# Altium schematic symbol library mcu.SchLib: 53 symbols (part 2 of 3)
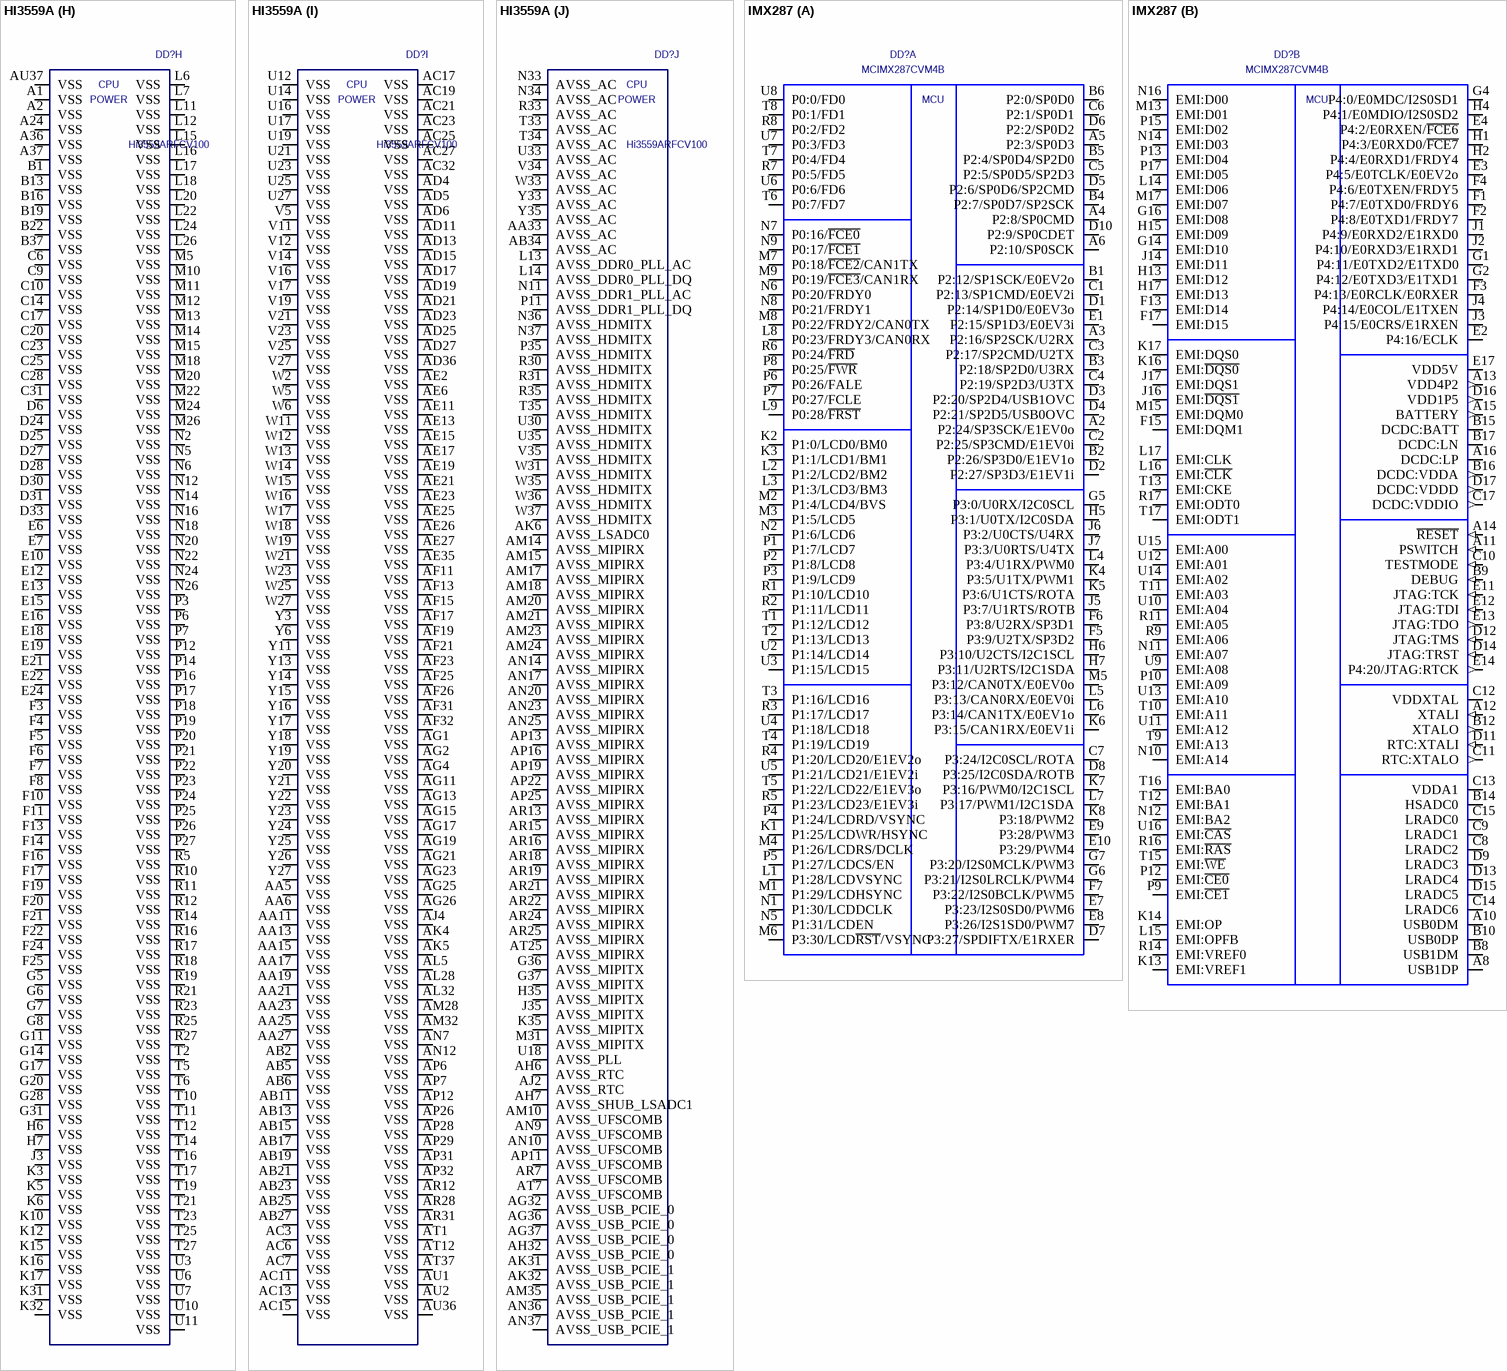
[diagram p8: symbols HI3559A to IMX287]

## HI3559A
designator DD?, comment Hi3559ARFCV100
Video processor; Value: Hi3559ARFCV100
footprint BGA1067_065
part A pins: A3 ODT1 (out) "VDDIO_DDR", A4 BG1 (out) "VDDIO_DDR", A5 A13 (out) "VDDIO_DDR", A6 A1 (out) "VDDIO_DDR", A7 A2 (out) "VDDIO_DDR", A8 A4 (out) "VDDIO_DDR", A9 ACT (out) "VDDIO_DDR", A10 A16 (out) "VDDIO_DDR", A11 CKE0 (out) "VDDIO_DDR", A12 DQ21 (io) "VDDIO_DDR", A13 DM2 (out) "VDDIO_DDR", A14 DQ25 (io) "VDDIO_DDR", A15 DQ31 (io) "VDDIO_DDR", A16 DQ30 (io) "VDDIO_DDR", A17 DQ26 (io) "VDDIO_DDR", A18 DQ1 (io) "VDDIO_DDR", A19 DQ7 (io) "VDDIO_DDR", A20 DM1 (out) "VDDIO_DDR", A21 DQ8 (io) "VDDIO_DDR", A22 DQ2 (io) "VDDIO_DDR", A23 DQ11 (io) "VDDIO_DDR", B3 ZQ "VDDIO_DDR", B4 ~{CS1} (out) "VDDIO_DDR", B5 CKE1 (out) "VDDIO_DDR", B6 A0 (out) "VDDIO_DDR", B7 A5 (out) "VDDIO_DDR", B8 A10 (out) "VDDIO_DDR", B9 A14 (out) "VDDIO_DDR", B10 A3 (out) "VDDIO_DDR", B11 ~{CS0} (out) "VDDIO_DDR", B12 DQ23 (io) "VDDIO_DDR", B14 DQ27 (io) "VDDIO_DDR", B15 DQ29 (io) "VDDIO_DDR", B17 DQ24 (io) "VDDIO_DDR", B18 DQ4 (io) "VDDIO_DDR", B20 DQ14 (io) "VDDIO_DDR", B21 DQ10 (io) "VDDIO_DDR", B23 DQ9 (io) "VDDIO_DDR", C4 A8 (out) "VDDIO_DDR", C5 A7 (out) "VDDIO_DDR", C7 BA0 (out) "VDDIO_DDR", C8 A15 (out) "VDDIO_DDR", C11 ODT0 (out) "VDDIO_DDR", C12 DQ17 (io) "VDDIO_DDR", C13 DQ18 (io) "VDDIO_DDR", C15 DQ28 (io) "VDDIO_DDR", C16 DM3 (out) "VDDIO_DDR", C18 DQ6 (io) "VDDIO_DDR", C19 DQ12 (io) "VDDIO_DDR", C21 DQ5 (io) "VDDIO_DDR", C22 DQ13 (io) "VDDIO_DDR", D4 ~{RST} (out) "VDDIO_DDR", D5 A6 (out) "VDDIO_DDR", D7 A9 (out) "VDDIO_DDR", D8 A12 (out) "VDDIO_DDR", D9 ~{CLK1} (out) "VDDIO_DDR0_CK", D10 BA1 (out) "VDDIO_DDR", D11 CLK0 (out) "VDDIO_DDR0_CK", D12 DQ22 (io) "VDDIO_DDR", D13 DQ19 (io) "VDDIO_DDR", D14 DQS2 (io) "VDDIO_DDR", D15 DQ20 (io) "VDDIO_DDR", D16 DQ16 (io) "VDDIO_DDR", D17 DQS3 (io) "VDDIO_DDR", D18 DM0 (out) "VDDIO_DDR", D19 DQ15 (io) "VDDIO_DDR", D20 ~{DQS0} (io) "VDDIO_DDR", D21 DQ3 (io) "VDDIO_DDR", D22 DQ0 (io) "VDDIO_DDR", D23 DQS1 (io) "VDDIO_DDR", E5 A11 (out) "VDDIO_DDR", E8 BG0 (out) "VDDIO_DDR", E9 CLK1 (out) "VDDIO_DDR0_CK", E11 ~{CLK0} (out) "VDDIO_DDR0_CK", E14 ~{DQS2} (io) "VDDIO_DDR", E17 ~{DQS3} (io) "VDDIO_DDR", E20 DQS0 (io) "VDDIO_DDR", E23 ~{DQS1} (io) "VDDIO_DDR", F9 VDDIO_DDR (power) "1,2V", F12 VDDIO_DDR (power) "1,2V", F15 VDDIO_DDR (power) "1,2V", F18 VDDIO_DDR (power) "1,2V", G9 VDDIO_DDR (power) "1,2V", G10 VDDIO_DDR (power) "1,2V", G12 VDDIO_DDR (power) "1,2V", G13 VDDIO_DDR (power) "1,2V", G15 VDDIO_DDR (power) "1,2V", G16 VDDIO_DDR (power) "1,2V", G18 VDDIO_DDR (power) "1,2V", G19 VDDIO_DDR (power) "1,2V", K11 VDDIO_CK (power) "1,2V", K13 AVDD18_PLL_AC (power) "1,8V", K14 AVDD18_PLL_DQ (power) "1,8V"
part B pins: AA1 DQ25 (io) "VDDIO_DDR", AA2 DQ31 (io) "VDDIO_DDR", AA3 DQ20 (io) "VDDIO_DDR", AA4 DQ16 (io) "VDDIO_DDR", AB1 DQ19 (io) "VDDIO_DDR", AB3 DQ28 (io) "VDDIO_DDR", AB4 DQ22 (io) "VDDIO_DDR", AC1 DQ26 (io) "VDDIO_DDR", AC2 DQ24 (io) "VDDIO_DDR", AC4 DQS2 (io) "VDDIO_DDR", AC5 ~{DQS2} (io) "VDDIO_DDR", B2 ZQ "VDDIO_DDR", C1 ODT1 (out) "VDDIO_DDR", C2 A8 (out) "VDDIO_DDR", C3 ~{RST} (out) "VDDIO_DDR", D1 BG1 (out) "VDDIO_DDR", D2 ~{CS1} (out) "VDDIO_DDR", D3 A7 (out) "VDDIO_DDR", E1 A13 (out) "VDDIO_DDR", E2 CKE1 (out) "VDDIO_DDR", E3 A11 (out) "VDDIO_DDR", E4 A6 (out) "VDDIO_DDR", F1 A1 (out) "VDDIO_DDR", F2 A0 (out) "VDDIO_DDR", G1 A2 (out) "VDDIO_DDR", G2 A5 (out) "VDDIO_DDR", G3 BA0 (out) "VDDIO_DDR", G4 A9 (out) "VDDIO_DDR", H1 A4 (out) "VDDIO_DDR", H2 A10 (out) "VDDIO_DDR", H3 A15 (out) "VDDIO_DDR", H4 A12 (out) "VDDIO_DDR", H5 BA1 (out) "VDDIO_DDR", J1 ACT (out) "VDDIO_DDR", J2 A14 (out) "VDDIO_DDR", J4 ~{CLK1} (out) "VDDIO_DDR1_CK", J5 CLK1 (out) "VDDIO_DDR1_CK", J6 VDDIO_DDR (power) "1,2V", J7 VDDIO_DDR (power) "1,2V", K1 A16 (out) "VDDIO_DDR", K2 A3 (out) "VDDIO_DDR", K4 BG0 (out) "VDDIO_DDR", K7 VDDIO_DDR (power) "1,2V", L1 CKE0 (out) "VDDIO_DDR", L2 ODT0 (out) "VDDIO_DDR", L3 ~{CS0} (out) "VDDIO_DDR", L4 CLK0 (out) "VDDIO_DDR1_CK", L5 ~{CLK0} (out) "VDDIO_DDR1_CK", L10 VDDIO_CK (power) "1,2V", M1 DQ4 (io) "VDDIO_DDR", M2 DQ6 (io) "VDDIO_DDR", M3 DQ0 (io) "VDDIO_DDR", M4 DQ7 (io) "VDDIO_DDR", M6 VDDIO_DDR (power) "1,2V", M7 VDDIO_DDR (power) "1,2V", N1 DM1 (out) "VDDIO_DDR", N3 DQ3 (io) "VDDIO_DDR", N4 DQ2 (io) "VDDIO_DDR", N7 VDDIO_DDR (power) "1,2V", N10 AVDD18_PLL_AC (power) "1,8V", P1 DQ12 (io) "VDDIO_DDR", P2 DQ14 (io) "VDDIO_DDR", P4 DQS1 (io) "VDDIO_DDR", P5 ~{DQS1} (io) "VDDIO_DDR", P10 AVDD18_PLL_DQ (power) "1,8V", R1 DQ8 (io) "VDDIO_DDR", R2 DQ10 (io) "VDDIO_DDR", R3 DQ15 (io) "VDDIO_DDR", R4 DQ5 (io) "VDDIO_DDR", R6 VDDIO_DDR (power) "1,2V", R7 VDDIO_DDR (power) "1,2V", T1 DQ11 (io) "VDDIO_DDR", T3 DQ1 (io) "VDDIO_DDR", T4 DM0 (out) "VDDIO_DDR", T7 VDDIO_DDR (power) "1,2V", U1 DQ13 (io) "VDDIO_DDR", U2 DQ9 (io) "VDDIO_DDR", U4 DQS0 (io) "VDDIO_DDR", U5 ~{DQS0} (io) "VDDIO_DDR", V1 DM3 (out) "VDDIO_DDR", V2 DQ21 (io) "VDDIO_DDR", V3 DQ23 (io) "VDDIO_DDR", V4 DQ18 (io) "VDDIO_DDR", V6 VDDIO_DDR (power) "1,2V", V7 VDDIO_DDR (power) "1,2V", W1 DQ17 (io) "VDDIO_DDR", W3 DQ27 (io) "VDDIO_DDR", W4 DQ30 (io) "VDDIO_DDR", W7 VDDIO_DDR (power) "1,2V", Y1 DM2 (out) "VDDIO_DDR", Y2 DQ29 (io) "VDDIO_DDR", Y4 DQS3 (io) "VDDIO_DDR", Y5 ~{DQS3} (io) "VDDIO_DDR"
part C pins: AL17 AVDD08_MIPIRX (power) "0,8V", AL18 AVDD08_MIPIRX (power) "0,8V", AL23 AVDD18_MIPIRX (power) "1,8V", AL24 AVDD18_MIPIRX (power) "1,8V", AM13 MIPI_RX3_D1N (in) "AVDD18_MIPIRX", AM16 MIPI_RX2_CK1N (in) "AVDD18_MIPIRX", AM19 MIPI_RX1_CK1N (in) "AVDD18_MIPIRX", AM22 MIPI_RX0_CK1N (in) "AVDD18_MIPIRX", AN13 MIPI_RX3_D1P (in) "AVDD18_MIPIRX", AN15 MIPI_RX3_D3P (in) "AVDD18_MIPIRX", AN16 MIPI_RX2_CK1P (in) "AVDD18_MIPIRX", AN18 MIPI_RX2_D0P (in) "AVDD18_MIPIRX", AN19 MIPI_RX1_CK1P (in) "AVDD18_MIPIRX", AN21 MIPI_RX1_D0P (in) "AVDD18_MIPIRX", AN22 MIPI_RX0_CK1P (in) "AVDD18_MIPIRX", AN24 MIPI_RX0_D3N (in) "AVDD18_MIPIRX", AP14 MIPI_RX3_CK1N (in) "AVDD18_MIPIRX", AP15 MIPI_RX3_D3N (in) "AVDD18_MIPIRX", AP17 MIPI_RX2_D2P (in) "AVDD18_MIPIRX", AP18 MIPI_RX2_D0N (in) "AVDD18_MIPIRX", AP20 MIPI_RX1_D2P (in) "AVDD18_MIPIRX", AP21 MIPI_RX1_D0N (in) "AVDD18_MIPIRX", AP23 MIPI_RX0_D2N (in) "AVDD18_MIPIRX", AP24 MIPI_RX0_D3P (in) "AVDD18_MIPIRX", AR14 MIPI_RX3_CK1P (in) "AVDD18_MIPIRX", AR17 MIPI_RX2_D2N (in) "AVDD18_MIPIRX", AR20 MIPI_RX1_D2N (in) "AVDD18_MIPIRX", AR23 MIPI_RX0_D2P (in) "AVDD18_MIPIRX", AT13 MIPI_RX3_D0N (in) "AVDD18_MIPIRX", AT14 MIPI_RX3_CK0N (in) "AVDD18_MIPIRX", AT15 MIPI_RX3_D2N (in) "AVDD18_MIPIRX", AT16 MIPI_RX2_CK0N (in) "AVDD18_MIPIRX", AT17 MIPI_RX2_D1N (in) "AVDD18_MIPIRX", AT18 MIPI_RX2_D3N (in) "AVDD18_MIPIRX", AT19 MIPI_RX1_CK0N (in) "AVDD18_MIPIRX", AT20 MIPI_RX1_D1N (in) "AVDD18_MIPIRX", AT21 MIPI_RX1_D3N (in) "AVDD18_MIPIRX", AT22 MIPI_RX0_CK0P (in) "AVDD18_MIPIRX", AT23 MIPI_RX0_D0P (in) "AVDD18_MIPIRX", AT24 MIPI_RX0_D1P (in) "AVDD18_MIPIRX", AU13 MIPI_RX3_D0P (in) "AVDD18_MIPIRX", AU14 MIPI_RX3_CK0P (in) "AVDD18_MIPIRX", AU15 MIPI_RX3_D2P (in) "AVDD18_MIPIRX", AU16 MIPI_RX2_CK0P (in) "AVDD18_MIPIRX", AU17 MIPI_RX2_D1P (in) "AVDD18_MIPIRX", AU18 MIPI_RX2_D3P (in) "AVDD18_MIPIRX", AU19 MIPI_RX1_CK0P (in) "AVDD18_MIPIRX", AU20 MIPI_RX1_D1P (in) "AVDD18_MIPIRX", AU21 MIPI_RX1_D3P (in) "AVDD18_MIPIRX", AU22 MIPI_RX0_CK0N (in) "AVDD18_MIPIRX", AU23 MIPI_RX0_D0N (in) "AVDD18_MIPIRX", AU24 MIPI_RX0_D1N (in) "AVDD18_MIPIRX", H36 DSI_D3N (out) "AVDD18_MIPITX", H37 DSI_D3P (out) "AVDD18_MIPITX", J36 DSI_D2N (out) "AVDD18_MIPITX", J37 DSI_D2P (out) "AVDD18_MIPITX", K36 DSI_CKN (out) "AVDD18_MIPITX", K37 DSI_CKP (out) "AVDD18_MIPITX", L34 HDMI_CEC (io) "DVDD18", L36 DSI_D1N (out) "AVDD18_MIPITX", L37 DSI_D1P (out) "AVDD18_MIPITX", M32 AVDD18_MIPITX (power) "1,8V", M34 HDMI_SCL (io) "DVDD18", M35 HDMI_SDA (io) "DVDD18", M36 DSI_D0N (out) "AVDD18_MIPITX", M37 DSI_D0P (out) "AVDD18_MIPITX", N35 HDMI_HOTPLUG (io) "DVDD18", P30 AVDD08_HDMITX (power) "0,8V", P31 AVDDPLL_HDMITX (power) "1,8V", P36 HDMI_TX2P (out) "AVDD18_HDMITX", P37 HDMI_TX2N (out) "AVDD18_HDMITX", R36 HDMI_TX1P (out) "AVDD18_HDMITX", R37 HDMI_TX1N (out) "AVDD18_HDMITX", T32 HDMI_REXT "AVDD18_HDMITX", T36 HDMI_TX0P (out) "AVDD18_HDMITX", T37 HDMI_TX0N (out) "AVDD18_HDMITX", U36 HDMI_TXCP (out) "AVDD18_HDMITX", U37 HDMI_TXCN (out) "AVDD18_HDMITX", V30 AVDRV_HDMITX "10k to +3,3V", V36 HDMI_EARCP (in) "AVDD18_HDMITX", V37 HDMI_EARCN (in) "AVDD18_HDMITX", W32 AVDD18_HDMITX (power) "1,8V"
part D pins: AA32 AVDD18_AC (power) "1,8V", AA34 AC_OUTL (out) "AVDD18_AC", AB7 DVDD18_OSC (power) "1,8V", AB33 AC_VREF "AVDD18_AC", AD1 SHUB_GPIO3_0/PWM_OUT0/SPI2_SCLK (io) "DVDD18_SENHUB", AD2 SHUB_GPIO3_1/PWM_OUT1/SPI2_SDO (io) "DVDD18_SENHUB", AD3 SHUB_GPIO3_5/PWM_OUT5/SPI0_CSN2/I2C6_SDA (io) "DVDD18_SENHUB", AE1 SHUB_GPIO3_2/PWM_OUT2/SPI2_SDI (io) "DVDD18_SENHUB", AE3 SHUB_GPIO3_6/PWM_OUT6/SPI1_CSN1/I2C7_SCL (io) "DVDD18_SENHUB", AE4 SHUB_GPIO3_4/PWM_OUT4/SPI0_CSN1/I2C6_SCL (io) "DVDD18_SENHUB", AE5 SHUB_GPIO3_3/PWM_OUT3/SPI2_CSN (io) "DVDD18_SENHUB", AE7 DVDD_SENHUB_LDO_DECAP "-", AE31 AVDDH33_USB0 (power) "3,3V", AE32 AVDD33_USB0 (power) "3,3V", AE36 USB_DM0 (io) "AVDD33_USB0", AE37 USB_DP0 (io) "AVDD33_USB0", AF1 XIN (in) "DVDD18_OSC", AF2 XOUT (out) "DVDD18_OSC", AF3 SHUB_GPIO3_7/PWM_OUT7/SPI1_CSN2/I2C7_SDA (io) "DVDD18_SENHUB", AF4 SHUB_GPIO2_5/UART2_RXD (io) "DVDD18_SENHUB", AF5 VDD_TEST_RTC (power) "-", AF6 DVDD18_SENHUB (power) "1,8V", AF27 DVDD_USB0 (power) "0,8V", AF37 USB_VBUS0 (in) "AVDD33_USB0", AG3 SHUB_GPIO2_7/UART2_TXD (io) "DVDD18_SENHUB", AG5 SHUB_GPIO2_6/UART2_CTSN/UART6_TXD/CAN_TX (io) "DVDD18_SENHUB", AG6 AVDD18_RTC_PMC (power) "1,8V", AG27 DVDD_USB1 (power) "0,8V", AG31 AVDD18_USB_PCIE_0 (power) "1,8V", AG35 USB_REXT0 "AVDD33_USB0", AH1 RTC_XOUT (out) "AVDD18_RTC_PMC", AH2 RTC_XIN (in) "AVDD18_RTC_PMC", AH3 SHUB_GPIO2_4/UART2_RTSN/UART6_RXD/CAN_RX (io) "DVDD18_SENHUB", AH4 SHUB_GPIO0_1/SPI0_SDO/I2C2_SDA (io) "DVDD18_SENHUB", AH5 SHUB_GPIO0_2/SPI0_SDI/I2C3_SCL (io) "DVDD18_SENHUB", AH31 AVDD18_USB_PCIE_1 (power) "1,8V", AH34 USB_ID0 (in) "AVDD33_USB0", AH35 ~{PCIE_CLK_REQ} (in) "DVDD18", AH36 ~{PCIE_REFCLK} (io) "AVDD18_USB_PCIE_0", AH37 PCIE_REFCLK (io) "AVDD18_USB_PCIE_0", AJ1 SHUB_GPIO1_0/I2C0_SDA/UART3_RXD (io) "DVDD18_SENHUB", AJ3 SHUB_GPIO1_1/I2C0_SCL/UART3_TXD (io) "DVDD18_SENHUB", AJ5 AVDD_BAT_RTC (power) "1,6..3,3V", AJ6 AVDD18_ULPFLL (power) "1,8V", AJ7 AVDD18_SHUB_LSADC1 (power) "1,8V", AJ31 AVDD08_USB_PCIE_1 (power) "1,8V", AJ32 AVDD08_USB_PCIE_0 (power) "1,8V", AJ36 USB3/PCIE_TXM0 (out) "AVDD18_USB_PCIE_0", AJ37 USB3/PCIE_TXP0 (out) "AVDD18_USB_PCIE_0", AK1 SHUB_GPIO0_4/SPI1_SCLK/I2C4_SCL (io) "DVDD18_SENHUB", AK2 SHUB_GPIO0_5/SPI1_SDO/I2C4_SDA (io) "DVDD18_SENHUB", AK3 SHUB_GPIO0_3/SPI0_CSN0/I2C3_SDA (io) "DVDD18_SENHUB", AK36 USB3/PCIE_RXM0 (in) "AVDD18_USB_PCIE_0", AK37 USB3/PCIE_RXP0 (in) "AVDD18_USB_PCIE_0", AL1 SHUB_GPIO0_6/SPI1_SDI/I2C5_SCL (io) "DVDD18_SENHUB", AL2 SHUB_GPIO0_7/SPI1_CSN0/I2C5_SDA (io) "DVDD18_SENHUB", AL3 SHUB_GPIO1_3/I2C1_SCL (io) "DVDD18_SENHUB", AL4 SHUB_GPIO0_0/SPI0_SCLK/I2C2_SCL (io) "DVDD18_SENHUB", AL31 AVDDH33_USB1 (power) "3,3V", AL36 USB3/PCIE_RXP1 (in) "AVDD18_USB_PCIE_1", AL37 USB3/PCIE_RXM1 (in) "AVDD18_USB_PCIE_1", AM1 SHUB_GPIO1_6/UART0_CTSN/UART4_TXD/I2C6_SDA (io) "DVDD18_SENHUB", AM2 SHUB_GPIO1_5/UART0_RXD (io) "DVDD18_SENHUB", AM3 SHUB_GPIO1_2/I2C1_SDA (io) "DVDD18_SENHUB", AM4 SHUB_GPIO2_0/UART1_RTSN/UART5_RXD/I2C7_SCL (io) "DVDD18_SENHUB", AM5 SHUB_GPIO2_2/UART1_CTSN/UART5_TXD/I2C7_SDA (io) "DVDD18_SENHUB", AM31 AVDD33_USB1 (power) "3,3V", AM36 USB3/PCIE_TXP1 (out) "AVDD18_USB_PCIE_1", AM37 USB3/PCIE_TXM1 (out) "AVDD18_USB_PCIE_1", AN1 SHUB_GPIO1_7/UART0_TXD (io) "DVDD18_SENHUB", AN2 SHUB_GPIO1_4/UART0_RTSN/UART4_RXD/I2C6_SCL (io) "DVDD18_SENHUB", AN3 SHUB_GPIO2_3/UART1_TXD (io) "DVDD18_SENHUB", AN4 SHUB_GPIO2_1/UART1_RXD (io) "DVDD18_SENHUB", AN11 RST_N (in) "DVDD18", AP1 PWR_WAKEUP2 (in) "AVDD18_RTC_PMC", AP2 PWR_SEQ0 (out) "AVDD18_RTC_PMC", AP3 PWR_EN2 (out) "AVDD18_RTC_PMC", AP4 PWR_EN1 (out) "AVDD18_RTC_PMC", AP5 SHUB_GPIO4_0/LSADC1_CH0 (io) "DVDD18_SENHUB", AP10 TEST_MODE (in) "DVDD18", AP36 USB_DP1 (io) "AVDD33_USB1", AP37 USB_DM1 (io) "AVDD33_USB1", AR1 PWR_STARTUP (in) "AVDD18_RTC_PMC", AR2 PWR_WAKEUP0 (in) "AVDD18_RTC_PMC", AR3 PWR_RSTN (in) "AVDD18_RTC_PMC", AR4 PWR_EN0 (out) "AVDD18_RTC_PMC", AR5 SHUB_GPIO4_1/LSADC1_CH1 (io) "DVDD18_SENHUB", AR11 SYS_RSTN_OUT (out) "DVDD18", AR35 USB_ID1 (in) "AVDD33_USB1", AR37 USB_VBUS1 (in) "AVDD33_USB1", AT2 PWR_WAKEUP1 (in) "AVDD18_RTC_PMC", AT3 PWR_SEQ1 (out) "AVDD18_RTC_PMC", AT4 PWR_SEQ2 (out) "AVDD18_RTC_PMC", AT36 USB_REXT1 "AVDD33_USB1", AU3 PWR_BUTTON0 (in) "AVDD18_RTC_PMC", AU12 POR_SEL (in) "DVDD18", P33 AC_MICBIAS0 (out) "AVDD18_AC", P34 AC_MICBIAS1 (out) "AVDD18_AC", R34 AC_IN1R (in) "AVDD18_AC", T18 AVDD08_PLL (power) "0,8V", U34 AC_IN1L (in) "AVDD18_AC", V18 AVDD18_PLL (power) "1,8V", V33 AC_IN0R (in) "AVDD18_AC", W34 AC_IN0L (in) "AVDD18_AC", Y34 AC_OUTR (out) "AVDD18_AC"
part E pins: A25 GPIO8_5/RGMII0_RXCK/LCD_DATA16 (io) "DVDD18", A26 GPIO8_7/RGMII0_TXD3/LCD_DATA18 (io) "DVDD18", A27 GPIO9_0/RGMII0_TXD2/LCD_DATA20 (io) "DVDD18", A28 GPIO9_2/RGMII0_TXD0/LCD_DATA22 (io) "DVDD18", A33 GPIO0_1/LCD_VSYNC (io) "DVDD18", A34 GPIO6_1/LCD_DATA3/RGMII1_TXD0 (io) "DVDD18", A35 GPIO7_7/LCD_DATA5/RGMII1_TXCK (io) "DVDD18", AC31 DVDD18 (power) "1,8V", AC35 GPIO0_0/UPDATE_MODE_N (io) "DVDD18", AF36 GPIO0_6/USB3_PWREN0 (io) "DVDD18", AG33 GPIO0_4/UART4_RXD/UART3_RTSN (io) "DVDD18", AG34 GPIO0_5/UART4_TXD/UART3_CTSN (io) "DVDD18", AL27 DVDD18 (power) "1,8V", AL33 GPIO4_6/SPI3_SDI (io) "DVDD18", AL34 GPIO5_7/SPI3_CSN1/I2C7_SDA (io) "DVDD18", AL35 GPIO4_7/SPI3_CSN0/I2C7_SCL (io) "DVDD18", AM27 DVDD18 (power) "1,8V", AN8 DVDD18 (power) "1,8V", AN26 GPIO3_1/SPI0_SDO/I2C0_SDA (io) "DVDD18", AN28 GPIO3_2/SPI0_SDI (io) "DVDD18", AN31 GPIO3_4/SPI1_SCLK/I2C1_SCL (io) "DVDD18", AN32 GPIO3_7/SPI1_CSN0/I2C5_SCL (io) "DVDD18", AN34 GPIO4_4/SPI3_SCLK/I2C3_SCL (io) "DVDD18", AN35 GPIO4_5/SPI3_SDO/I2C3_SDA (io) "DVDD18", AP27 GPIO5_4/SPI0_CSN1/I2C4_SDA (io) "DVDD18", AP30 GPIO3_5/SPI1_SDO/I2C1_SDA (io) "DVDD18", AP33 GPIO4_0/SPI2_SCLK/I2C2_SCL (io) "DVDD18", AP34 GPIO5_6/SPI2_CSN1/I2C6_SDA (io) "DVDD18", AP35 GPIO4_3/SPI2_CSN0/I2C6_SCL (io) "DVDD18", AR26 GPIO5_0/SENSOR_RSTN0 (io) "DVDD18", AR27 GPIO3_3/SPI0_CSN0/I2C4_SCL (io) "DVDD18", AR30 GPIO3_6/SPI1_SDI (io) "DVDD18", AR32 GPIO5_5/SPI1_CSN1/I2C5_SDA (io) "DVDD18", AR33 GPIO4_1/SPI2_SDO/I2C2_SDA (io) "DVDD18", AR34 GPIO4_2/SPI2_SDI (io) "DVDD18", AR36 GPIO0_7/USB3_PWREN1 (io) "DVDD18", AT26 GPIO3_0/SPI0_SCLK/I2C0_SCL (io) "DVDD18", AT27 GPIO1_1/SENSOR_CLK0_B (io) "DVDD18", AT28 GPIO2_2/SENSOR_HS1/SFC_EMMC_BOOT_MODE/FLASH_TRIG2 (io) "DVDD18", AT29 GPIO1_3/SENSOR_CLK1_B (io) "DVDD18", AT30 GPIO2_5/SENSOR_VS2/PCIE_REFCLK_SEL/SHUTTER_TRIG4 (io) "DVDD18", AT31 GPIO1_4/SENSOR_CLK2_A (io) "DVDD18", AT32 GPIO5_2/SENSOR_RSTN2 (io) "DVDD18", AT33 GPIO2_6/SENSOR_HS3/PCIE_DEEMPH_SEL/FLASH_TRIG6 (io) "DVDD18", AT34 GPIO1_7/SENSOR_CLK3_B/TEST_CLK (io) "DVDD18", AU25 GPIO2_1/SENSOR_VS0/SFC_DEVICE_MODE (io) "DVDD18", AU26 GPIO2_0/SENSOR_HS0 (io) "DVDD18", AU27 GPIO1_0/SENSOR_CLK0_A (io) "DVDD18", AU28 GPIO2_3/SENSOR_VS1/PCIE_USB3_MODE0/SHUTTER_TRIG2 (io) "DVDD18", AU29 GPIO1_2/SENSOR_CLK1_A (io) "DVDD18", AU30 GPIO5_1/SENSOR_RSTN1 (io) "DVDD18", AU31 GPIO2_4/SENSOR_HS2/PCIE_USB3_MODE1/FLASH_TRIG4 (io) "DVDD18", AU32 GPIO1_5/SENSOR_CLK2_B (io) "DVDD18", AU33 GPIO2_7/SENSOR_VS3/BOOT_SEL4/SHUTTER_TRIG6 (io) "DVDD18", AU34 GPIO1_6/SENSOR_CLK3_A (io) "DVDD18", AU35 GPIO5_3/SENSOR_RSTN3 (io) "DVDD18", B24 GPIO8_0/RGMII0_RXDV/LCD_DATA15 (io) "DVDD18", B25 GPIO9_6/MDCK0/LCD_DATA17 (io) "DVDD18", B26 GPIO9_4/EPHY0_CLK/LCD_DATA19 (io) "DVDD18", B27 GPIO9_1/RGMII0_TXD1/LCD_DATA21 (io) "DVDD18", B28 GPIO9_3/RGMII0_TXCK/LCD_DATA23 (io) "DVDD18", B33 GPIO6_2/LCD_DATA2/RGMII1_TXD1 (io) "DVDD18", B34 GPIO6_0/LCD_DATA4/RGMII1_TXEN (io) "DVDD18", B35 GPIO7_6/LCD_DATA6 (io) "DVDD18", B36 GPIO7_4/LCD_DATA8/RGMII1_RXD2/SDIO2_CCMD (io) "DVDD18", C24 GPIO8_6/RGMII0_TXEN (io) "DVDD18", C26 GPIO9_7/MDIO0 (io) "DVDD18", C27 GPIO8_4/RGMII0_RXD0/LCD_DATA14 (io) "DVDD18", C34 GPIO6_7/LCD_DE/EPHY1_RSTN (io) "DVDD18", C35 GPIO7_5/SDIO2_CDATA3/RGMII1_RXD3 (io) "DVDD18", C36 GPIO7_3/LCD_DATA9/RGMII1_RXD1/SDIO2_POWER_EN (io) "DVDD18", C37 GPIO7_2/LCD_DATA10/RGMII1_RXD0/SDIO2_CCLK (io) "DVDD18", D26 GPIO8_1/RGMII0_RXD3 (io) "DVDD18", D34 GPIO6_6/SDIO2_CDATA2/MDCK1 (io) "DVDD18", D35 GPIO6_5/LCD_HSYNC/MDIO1 (io) "DVDD18", D36 GPIO7_1/LCD_DATA11/RGMII1_RXDV/SDIO2_CDATA0 (io) "DVDD18", E25 GPIO9_5/EPHY0_RSTN (io) "DVDD18", E26 GPIO8_2/RGMII0_RXD2/LCD_DATA12 (io) "DVDD18", E27 GPIO8_3/RGMII0_RXD1/LCD_DATA13 (io) "DVDD18", E34 GPIO6_3/LCD_DATA1/RGMII1_TXD2 (io) "DVDD18", E35 GPIO6_4/LCD_DATA0/RGMII1_TXD3 (io) "DVDD18", E36 GPIO7_0/LCD_DATA7/EPHY1_CLK (io) "DVDD18", E37 GPIO0_2 (io) "DVDD18", F29 DVDD18_LDO_DECAP_3 "-", F31 DVDD18_LDO_DECAP_2 "-", F34 GPIO0_3/LCD_CLK (io) "DVDD18", G24 DVDD18 (power) "1,8V", G25 DVDD18 (power) "1,8V", G29 DVDD18_LDO_DECAP_1 "-", J31 DVDD18 (power) "1,8V", J32 DVDD18 (power) "1,8V"
part F pins: A29 GPIO11_6/SDIO0_CDATA2/JTAG_TDI (io) "DVDD33/DVDD18", A30 GPIO11_3/SDIO0_CCMD (io) "DVDD33/DVDD18", A31 GPIO11_2/SDIO0_CCLK/JTAG_TCK (io) "DVDD33/DVDD18", A32 GPIO11_5/SDIO0_CDATA1/JTAG_TDO (io) "DVDD33/DVDD18", AA35 GPIO13_0/UART0_RXD/CAN0_RX (io) "DVDD18", AA36 GPIO14_4/SVB_PWM2 (io) "DVDD18", AA37 GPIO14_5/SVB_PWM3 (io) "DVDD18", AB35 GPIO13_1/UART0_TXD/CAN0_TX (io) "DVDD18", AB36 GPIO17_0/JTAG_TRSTN/I2S_MCLK (io) "DVDD18", AB37 GPIO17_4/JTAG_TDI/I2S_SD_RX (io) "DVDD18", AC36 GPIO17_2/JTAG_TMS/I2S_WS_TX (io) "DVDD18", AC37 GPIO17_1/JTAG_TCK/I2S_BCLK_TX (io) "DVDD18", AD33 GPIO13_2/UART1_RXD/CAN1_RX (io) "DVDD18", AD34 GPIO13_3/UART1_TXD/CAN1_TX (io) "DVDD18", AD35 GPIO17_3/JTAG_TDO/I2S_SD_TX (io) "DVDD18", AD37 JTAG_EN (in) "DVDD18", AE33 GPIO13_7/UART3_TXD (io) "DVDD18", AE34 GPIO13_6/UART3_RXD (io) "DVDD18", AF34 GPIO13_4/UART2_RXD/UART1_RTSN (io) "DVDD18", AF35 GPIO13_5/UART2_TXD/UART1_CTSN (io) "DVDD18", AH33 GPIO14_0/PWM_OUT0/USB3_OVRCUR0 (io) "DVDD18", AK7 AVDD18_LSADC0 (power) "1,8V", AK33 GPIO14_1/PWM_OUT1/USB3_OVRCUR1 (io) "DVDD18", AK34 GPIO17_6/SHUTTER_TRIG0 (io) "DVDD18", AK35 GPIO17_5/FLASH_TRIG0 (io) "DVDD18", AL10 AVDD18_UFSCOMB (power) "1,8V", AL11 AVDD1218_UFSCOMB (power) "1,2/1,8V", AM9 AVDD18_UFSCOMB (power) "1,8V", AM11 AVDD08_UFSCOMB (power) "0,8V", AN5 GPIO14_6/LSADC_CH0 (io) "DVDD18", AN6 GPIO14_7/LSADC_CH1 (io) "DVDD18", AN29 GPIO18_1/SENSOR_VSOUT1/BOOT_SEL2 (io) "DVDD18", AN33 GPIO18_2/SENSOR_VSOUT2/BOOT_SEL1 (io) "DVDD18", AP8 EMMC_CLK (io) "DVDD18", AP9 EMMC_DS (io) "DVDD18", AR6 GPIO15_2/SFC_MOSI_IO0/NF_CSN (io) "DVDD18", AR8 EMMC_CALIO (io) "AVDD1218_UFSCOMB", AR9 EMMC_CMD (io) "DVDD18", AR10 GPIO17_7/EMMC_RST_N (io) "DVDD18", AR29 GPIO18_0/SENSOR_VSOUT0/BOOT_SEL3 (io) "DVDD18", AT5 GPIO15_6/SFC_CS 0N/NF_RDY (io) "DVDD18", AT6 GPIO15_5/SFC_HOLD_IO3/NF_ALE (io) "DVDD18", AT8 GPIO10_2/EMMC_DATA2/NF_DQ1 (io) "DVDD18", AT9 GPIO10_3/EMMC_DATA3/NF_DQ3 (io) "DVDD18", AT10 GPIO10_4/EMMC_DATA4/NF_DQ5 (io) "DVDD18", AT11 GPIO10_6/EMMC_DATA6/NF_DQ7 (io) "DVDD18", AT35 GPIO18_3/SENSOR_VSOUT3/BOOT_SEL0 (io) "DVDD18", AU4 GPIO15_0/SFC_CS 1N/EMMC_POWER_EN (io) "DVDD18", AU5 GPIO15_1/SFC_CLK/NF_REN (io) "DVDD18", AU6 GPIO15_3/SFC_MISO_IO1/NF_CLE (io) "DVDD18", AU7 GPIO15_4/SFC_WP_IO2/NF_WEN (io) "DVDD18", AU8 GPIO10_5/EMMC_DATA5/NF_DQ0 (io) "DVDD18", AU9 GPIO10_0/EMMC_DATA0/NF_DQ2 (io) "DVDD18", AU10 GPIO10_1/EMMC_DATA1/NF_DQ4 (io) "DVDD18", AU11 GPIO10_7/EMMC_DATA7/NF_DQ6 (io) "DVDD18", B29 GPIO11_7/SDIO0_CDATA3/JTAG_TRSTN (io) "DVDD33/DVDD18", B30 GPIO11_0/SDIO0_POWER_EN (io) "DVDD33", B31 GPIO11_4/SDIO0_CDATA0/JTAG_TMS (io) "DVDD33/DVDD18", B32 GPIO11_1/SDIO0_CARD_DETECT (io) "DVDD33", C29 GPIO16_7/IR_IN (io) "DVDD18", C30 GPIO12_0/SDIO1_POWER_EN (io) "DVDD33", C32 GPIO12_2/SDIO1_CCLK (io) "DVDD33", C33 DVDD3318_SDIO_VOUT "-", D29 GPIO12_6/SDIO1_CDATA2 (io) "DVDD33", D32 GPIO12_4/SDIO1_CDATA0 (io) "DVDD33", D37 GPIO15_7/SDIO2_CDATA1/RGMII1_RXCK (io) "DVDD18", E28 GPIO12_7/SDIO1_CDATA3 (io) "DVDD33", E30 GPIO12_3/SDIO1_CCMD (io) "DVDD33", E31 GPIO12_5/SDIO1_CDATA1 (io) "DVDD33", E33 GPIO12_1/SDIO1_CARD_DETECT (io) "DVDD33", F28 DVDD33 (power) "-", F35 GPIO16_4/SPI4_CSN1 (io) "DVDD18", F36 I2C11_SDA (io) "DVDD18", F37 I2C11_SCL (io) "DVDD18", G34 GPIO16_1/SPI4_SDO/I2C8_SDA (io) "DVDD18", G35 GPIO16_0/SPI4_SCLK/I2C8_SCL (io) "DVDD18", H34 GPIO16_2/SPI4_SDI/I2C9_SCL (io) "DVDD18", J34 GPIO16_3/SPI4_CSN0/I2C9_SDA (io) "DVDD18", K34 GPIO16_5/SPI4_CSN2/I2C10_SCL (io) "DVDD18", L35 GPIO16_6/SPI4_CSN3/I2C10_SDA (io) "DVDD18", Y36 GPIO14_2/SVB_PWM0 (io) "DVDD18", Y37 GPIO14_3/SVB_PWM1 (io) "DVDD18"
part G pins: AA12 DVDD_MEDIA (power) "0,9V", AA14 DVDD_MEDIA (power) "0,9V", AA16 DVDD_MEDIA (power) "0,9V", AA18 DVDD_MEDIA (power) "0,9V", AA20 DVDD_MEDIA (power) "0,9V", AA22 DVDD_MEDIA (power) "0,9V", AA24 DVDD_MEDIA (power) "0,9V", AA26 DVDD_MEDIA (power) "0,9V", AB12 DVDD_MEDIA (power) "0,9V", AB14 DVDD_MEDIA (power) "0,9V", AB16 DVDD_MEDIA (power) "0,9V", AB18 DVDD_MEDIA (power) "0,9V", AB20 DVDD_MEDIA (power) "0,9V", AB22 DVDD_MEDIA (power) "0,9V", AB24 DVDD_MEDIA (power) "0,9V", AB26 DVDD_MEDIA (power) "0,9V", AC12 DVDD_MEDIA (power) "0,9V", AC14 DVDD_MEDIA (power) "0,9V", AC16 DVDD_MEDIA (power) "0,9V", AC18 DVDD_MEDIA (power) "0,9V", AC20 DVDD_MEDIA (power) "0,9V", AC22 DVDD_MEDIA (power) "0,9V", AC24 DVDD_MEDIA (power) "0,9V", AC26 DVDD_MEDIA (power) "0,9V", AD12 DVDD_MEDIA (power) "0,9V", AD14 DVDD_MEDIA (power) "0,9V", AD16 DVDD_MEDIA (power) "0,9V", AD18 DVDD_MEDIA (power) "0,9V", AD20 DVDD_MEDIA (power) "0,9V", AD22 DVDD_MEDIA (power) "0,9V", AD24 DVDD_MEDIA (power) "0,9V", AD26 DVDD_MEDIA (power) "0,9V", AE12 DVDD_MEDIA (power) "0,9V", AE14 DVDD_MEDIA (power) "0,9V", AE16 DVDD_MEDIA (power) "0,9V", AE18 DVDD_MEDIA (power) "0,9V", AE20 DVDD_MEDIA (power) "0,9V", AE22 DVDD_MEDIA (power) "0,9V", AE24 DVDD_MEDIA (power) "0,9V", AF12 DVDD_MEDIA (power) "0,9V", AF14 DVDD_MEDIA (power) "0,9V", AF16 DVDD_MEDIA (power) "0,9V", AF18 DVDD_MEDIA (power) "0,9V", AF20 DVDD_MEDIA (power) "0,9V", AF22 DVDD_MEDIA (power) "0,9V", AF24 DVDD_MEDIA (power) "0,9V", AG12 DVDD_MEDIA (power) "0,9V", AG14 DVDD_MEDIA (power) "0,9V", AG16 DVDD_MEDIA (power) "0,9V", AG18 DVDD_MEDIA (power) "0,9V", AG20 DVDD_MEDIA (power) "0,9V", AG22 DVDD_MEDIA (power) "0,9V", AG24 DVDD_MEDIA (power) "0,9V", L19 DVDD_CPU (power) "0,9V", L21 DVDD_CPU (power) "0,9V", L23 DVDD_CPU (power) "0,9V", L25 DVDD_CPU (power) "0,9V", L27 DVDD_CPU (power) "0,9V", M16 DVDD (power) "0,9V", M17 DVDD (power) "0,9V", M19 DVDD_CPU (power) "0,9V", M21 DVDD_CPU (power) "0,9V", M23 DVDD_CPU (power) "0,9V", M25 DVDD_CPU (power) "0,9V", M27 DVDD_CPU (power) "0,9V", N13 DVDD (power) "0,9V", N15 DVDD (power) "0,9V", N17 DVDD (power) "0,9V", N19 DVDD_CPU (power) "0,9V", N21 DVDD_CPU (power) "0,9V", N23 DVDD_CPU (power) "0,9V", N25 DVDD_CPU (power) "0,9V", N27 DVDD_CPU (power) "0,9V", P13 DVDD (power) "0,9V", P15 DVDD (power) "0,9V", R13 DVDD (power) "0,9V", R15 DVDD (power) "0,9V", R20 DVDD_GPU (power) "0,9V", R22 DVDD_GPU (power) "0,9V", R24 DVDD_GPU (power) "0,9V", R26 DVDD_GPU (power) "0,9V", T13 DVDD (power) "0,9V", T15 DVDD (power) "0,9V", T20 DVDD_GPU (power) "0,9V", T22 DVDD_GPU (power) "0,9V", T24 DVDD_GPU (power) "0,9V", T26 DVDD_GPU (power) "0,9V", U13 DVDD (power) "0,9V", U15 DVDD (power) "0,9V", U20 DVDD_GPU (power) "0,9V", U22 DVDD_GPU (power) "0,9V", U24 DVDD_GPU (power) "0,9V", U26 DVDD_GPU (power) "0,9V", V13 DVDD (power) "0,9V", V15 DVDD (power) "0,9V", V20 DVDD_GPU (power) "0,9V", V22 DVDD_GPU (power) "0,9V", V24 DVDD_GPU (power) "0,9V", V26 DVDD_GPU (power) "0,9V", W20 DVDD_GPU (power) "0,9V", W22 DVDD_GPU (power) "0,9V", W24 DVDD_GPU (power) "0,9V", W26 DVDD_GPU (power) "0,9V", Y12 DVDD_MEDIA (power) "0,9V"
part H pins: A1 VSS (power) "-", A2 VSS (power) "-", A24 VSS (power) "-", A36 VSS (power) "-", A37 VSS (power) "-", AU37 VSS (power) "-", B1 VSS (power) "-", B13 VSS (power) "-", B16 VSS (power) "-", B19 VSS (power) "-", B22 VSS (power) "-", B37 VSS (power) "-", C6 VSS (power) "-", C9 VSS (power) "-", C10 VSS (power) "-", C14 VSS (power) "-", C17 VSS (power) "-", C20 VSS (power) "-", C23 VSS (power) "-", C25 VSS (power) "-", C28 VSS (power) "-", C31 VSS (power) "-", D6 VSS (power) "-", D24 VSS (power) "-", D25 VSS (power) "-", D27 VSS (power) "-", D28 VSS (power) "-", D30 VSS (power) "-", D31 VSS (power) "-", D33 VSS (power) "-", E6 VSS (power) "-", E7 VSS (power) "-", E10 VSS (power) "-", E12 VSS (power) "-", E13 VSS (power) "-", E15 VSS (power) "-", E16 VSS (power) "-", E18 VSS (power) "-", E19 VSS (power) "-", E21 VSS (power) "-", E22 VSS (power) "-", E24 VSS (power) "-", F3 VSS (power) "-", F4 VSS (power) "-", F5 VSS (power) "-", F6 VSS (power) "-", F7 VSS (power) "-", F8 VSS (power) "-", F10 VSS (power) "-", F11 VSS (power) "-", F13 VSS (power) "-", F14 VSS (power) "-", F16 VSS (power) "-", F17 VSS (power) "-", F19 VSS (power) "-", F20 VSS (power) "-", F21 VSS (power) "-", F22 VSS (power) "-", F24 VSS (power) "-", F25 VSS (power) "-", G5 VSS (power) "-", G6 VSS (power) "-", G7 VSS (power) "-", G8 VSS (power) "-", G11 VSS (power) "-", G14 VSS (power) "-", G17 VSS (power) "-", G20 VSS (power) "-", G28 VSS (power) "-", G31 VSS (power) "-", H6 VSS (power) "-", H7 VSS (power) "-", J3 VSS (power) "-", K3 VSS (power) "-", K5 VSS (power) "-", K6 VSS (power) "-", K10 VSS (power) "-", K12 VSS (power) "-", K15 VSS (power) "-", K16 VSS (power) "-", K17 VSS (power) "-", K31 VSS (power) "-", K32 VSS (power) "-", L6 VSS (power) "-", L7 VSS (power) "-", L11 VSS (power) "-", L12 VSS (power) "-", L15 VSS (power) "-", L16 VSS (power) "-", L17 VSS (power) "-", L18 VSS (power) "-", L20 VSS (power) "-", L22 VSS (power) "-", L24 VSS (power) "-", L26 VSS (power) "-", M5 VSS (power) "-", M10 VSS (power) "-", M11 VSS (power) "-", M12 VSS (power) "-", M13 VSS (power) "-", M14 VSS (power) "-", M15 VSS (power) "-", M18 VSS (power) "-", M20 VSS (power) "-", M22 VSS (power) "-", M24 VSS (power) "-", M26 VSS (power) "-", N2 VSS (power) "-", N5 VSS (power) "-", N6 VSS (power) "-", N12 VSS (power) "-", N14 VSS (power) "-", N16 VSS (power) "-", N18 VSS (power) "-", N20 VSS (power) "-", N22 VSS (power) "-", N24 VSS (power) "-", N26 VSS (power) "-", P3 VSS (power) "-", P6 VSS (power) "-", P7 VSS (power) "-", P12 VSS (power) "-", P14 VSS (power) "-", P16 VSS (power) "-", P17 VSS (power) "-", P18 VSS (power) "-", P19 VSS (power) "-", P20 VSS (power) "-", P21 VSS (power) "-", P22 VSS (power) "-", P23 VSS (power) "-", P24 VSS (power) "-", P25 VSS (power) "-", P26 VSS (power) "-", P27 VSS (power) "-", R5 VSS (power) "-", R10 VSS (power) "-", R11 VSS (power) "-", R12 VSS (power) "-", R14 VSS (power) "-", R16 VSS (power) "-", R17 VSS (power) "-", R18 VSS (power) "-", R19 VSS (power) "-", R21 VSS (power) "-", R23 VSS (power) "-", R25 VSS (power) "-", R27 VSS (power) "-", T2 VSS (power) "-", T5 VSS (power) "-", T6 VSS (power) "-", T10 VSS (power) "-", T11 VSS (power) "-", T12 VSS (power) "-", T14 VSS (power) "-", T16 VSS (power) "-", T17 VSS (power) "-", T19 VSS (power) "-", T21 VSS (power) "-", T23 VSS (power) "-", T25 VSS (power) "-", T27 VSS (power) "-", U3 VSS (power) "-", U6 VSS (power) "-", U7 VSS (power) "-", U10 VSS (power) "-", U11 VSS (power) "-"
part I pins: AA5 VSS (power) "-", AA6 VSS (power) "-", AA11 VSS (power) "-", AA13 VSS (power) "-", AA15 VSS (power) "-", AA17 VSS (power) "-", AA19 VSS (power) "-", AA21 VSS (power) "-", AA23 VSS (power) "-", AA25 VSS (power) "-", AA27 VSS (power) "-", AB2 VSS (power) "-", AB5 VSS (power) "-", AB6 VSS (power) "-", AB11 VSS (power) "-", AB13 VSS (power) "-", AB15 VSS (power) "-", AB17 VSS (power) "-", AB19 VSS (power) "-", AB21 VSS (power) "-", AB23 VSS (power) "-", AB25 VSS (power) "-", AB27 VSS (power) "-", AC3 VSS (power) "-", AC6 VSS (power) "-", AC7 VSS (power) "-", AC11 VSS (power) "-", AC13 VSS (power) "-", AC15 VSS (power) "-", AC17 VSS (power) "-", AC19 VSS (power) "-", AC21 VSS (power) "-", AC23 VSS (power) "-", AC25 VSS (power) "-", AC27 VSS (power) "-", AC32 VSS (power) "-", AD4 VSS (power) "-", AD5 VSS (power) "-", AD6 VSS (power) "-", AD11 VSS (power) "-", AD13 VSS (power) "-", AD15 VSS (power) "-", AD17 VSS (power) "-", AD19 VSS (power) "-", AD21 VSS (power) "-", AD23 VSS (power) "-", AD25 VSS (power) "-", AD27 VSS (power) "-", AD36 VSS (power) "-", AE2 VSS (power) "-", AE6 VSS (power) "-", AE11 VSS (power) "-", AE13 VSS (power) "-", AE15 VSS (power) "-", AE17 VSS (power) "-", AE19 VSS (power) "-", AE21 VSS (power) "-", AE23 VSS (power) "-", AE25 VSS (power) "-", AE26 VSS (power) "-", AE27 VSS (power) "-", AE35 VSS (power) "-", AF11 VSS (power) "-", AF13 VSS (power) "-", AF15 VSS (power) "-", AF17 VSS (power) "-", AF19 VSS (power) "-", AF21 VSS (power) "-", AF23 VSS (power) "-", AF25 VSS (power) "-", AF26 VSS (power) "-", AF31 VSS (power) "-", AF32 VSS (power) "-", AG1 VSS (power) "-", AG2 VSS (power) "-", AG4 VSS (power) "-", AG11 VSS (power) "-", AG13 VSS (power) "-", AG15 VSS (power) "-", AG17 VSS (power) "-", AG19 VSS (power) "-", AG21 VSS (power) "-", AG23 VSS (power) "-", AG25 VSS (power) "-", AG26 VSS (power) "-", AJ4 VSS (power) "-", AK4 VSS (power) "-", AK5 VSS (power) "-", AL5 VSS (power) "-", AL28 VSS (power) "-", AL32 VSS (power) "-", AM28 VSS (power) "-", AM32 VSS (power) "-", AN7 VSS (power) "-", AN12 VSS (power) "-", AP6 VSS (power) "-", AP7 VSS (power) "-", AP12 VSS (power) "-", AP26 VSS (power) "-", AP28 VSS (power) "-", AP29 VSS (power) "-", AP31 VSS (power) "-", AP32 VSS (power) "-", AR12 VSS (power) "-", AR28 VSS (power) "-", AR31 VSS (power) "-", AT1 VSS (power) "-", AT12 VSS (power) "-", AT37 VSS (power) "-", AU1 VSS (power) "-", AU2 VSS (power) "-", AU36 VSS (power) "-", U12 VSS (power) "-", U14 VSS (power) "-", U16 VSS (power) "-", U17 VSS (power) "-", U19 VSS (power) "-", U21 VSS (power) "-", U23 VSS (power) "-", U25 VSS (power) "-", U27 VSS (power) "-", V5 VSS (power) "-", V11 VSS (power) "-", V12 VSS (power) "-", V14 VSS (power) "-", V16 VSS (power) "-", V17 VSS (power) "-", V19 VSS (power) "-", V21 VSS (power) "-", V23 VSS (power) "-", V25 VSS (power) "-", V27 VSS (power) "-", W2 VSS (power) "-", W5 VSS (power) "-", W6 VSS (power) "-", W11 VSS (power) "-", W12 VSS (power) "-", W13 VSS (power) "-", W14 VSS (power) "-", W15 VSS (power) "-", W16 VSS (power) "-", W17 VSS (power) "-", W18 VSS (power) "-", W19 VSS (power) "-", W21 VSS (power) "-", W23 VSS (power) "-", W25 VSS (power) "-", W27 VSS (power) "-", Y3 VSS (power) "-", Y6 VSS (power) "-", Y11 VSS (power) "-", Y13 VSS (power) "-", Y14 VSS (power) "-", Y15 VSS (power) "-", Y16 VSS (power) "-", Y17 VSS (power) "-", Y18 VSS (power) "-", Y19 VSS (power) "-", Y20 VSS (power) "-", Y21 VSS (power) "-", Y22 VSS (power) "-", Y23 VSS (power) "-", Y24 VSS (power) "-", Y25 VSS (power) "-", Y26 VSS (power) "-", Y27 VSS (power) "-"
part J pins: AA33 AVSS_AC (power) "-", AB34 AVSS_AC (power) "-", AG32 AVSS_USB_PCIE_0 (power) "-", AG36 AVSS_USB_PCIE_0 (power) "-", AG37 AVSS_USB_PCIE_0 (power) "-", AH6 AVSS_RTC (power) "-", AH7 AVSS_SHUB_LSADC1 (power) "-", AH32 AVSS_USB_PCIE_0 (power) "-", AJ2 AVSS_RTC (power) "-", AK6 AVSS_LSADC0 (power) "-", AK31 AVSS_USB_PCIE_1 (power) "-", AK32 AVSS_USB_PCIE_1 (power) "-", AM10 AVSS_UFSCOMB (power) "-", AM14 AVSS_MIPIRX (power) "-", AM15 AVSS_MIPIRX (power) "-", AM17 AVSS_MIPIRX (power) "-", AM18 AVSS_MIPIRX (power) "-", AM20 AVSS_MIPIRX (power) "-", AM21 AVSS_MIPIRX (power) "-", AM23 AVSS_MIPIRX (power) "-", AM24 AVSS_MIPIRX (power) "-", AM35 AVSS_USB_PCIE_1 (power) "-", AN9 AVSS_UFSCOMB (power) "-", AN10 AVSS_UFSCOMB (power) "-", AN14 AVSS_MIPIRX (power) "-", AN17 AVSS_MIPIRX (power) "-", AN20 AVSS_MIPIRX (power) "-", AN23 AVSS_MIPIRX (power) "-", AN25 AVSS_MIPIRX (power) "-", AN36 AVSS_USB_PCIE_1 (power) "-", AN37 AVSS_USB_PCIE_1 (power) "-", AP11 AVSS_UFSCOMB (power) "-", AP13 AVSS_MIPIRX (power) "-", AP16 AVSS_MIPIRX (power) "-", AP19 AVSS_MIPIRX (power) "-", AP22 AVSS_MIPIRX (power) "-", AP25 AVSS_MIPIRX (power) "-", AR7 AVSS_UFSCOMB (power) "-", AR13 AVSS_MIPIRX (power) "-", AR15 AVSS_MIPIRX (power) "-", AR16 AVSS_MIPIRX (power) "-", AR18 AVSS_MIPIRX (power) "-", AR19 AVSS_MIPIRX (power) "-", AR21 AVSS_MIPIRX (power) "-", AR22 AVSS_MIPIRX (power) "-", AR24 AVSS_MIPIRX (power) "-", AR25 AVSS_MIPIRX (power) "-", AT7 AVSS_UFSCOMB (power) "-", AT25 AVSS_MIPIRX (power) "-", G36 AVSS_MIPITX (power) "-", G37 AVSS_MIPITX (power) "-", H35 AVSS_MIPITX (power) "-", J35 AVSS_MIPITX (power) "-", K35 AVSS_MIPITX (power) "-", L13 AVSS_DDR0_PLL_AC (power) "-", L14 AVSS_DDR0_PLL_DQ (power) "-", M31 AVSS_MIPITX (power) "-", N11 AVSS_DDR1_PLL_AC (power) "-", N33 AVSS_AC (power) "-", N34 AVSS_AC (power) "-", N36 AVSS_HDMITX (power) "-", N37 AVSS_HDMITX (power) "-", P11 AVSS_DDR1_PLL_DQ (power) "-", P35 AVSS_HDMITX (power) "-", R30 AVSS_HDMITX (power) "-", R31 AVSS_HDMITX (power) "-", R33 AVSS_AC (power) "-", R35 AVSS_HDMITX (power) "-", T33 AVSS_AC (power) "-", T34 AVSS_AC (power) "-", T35 AVSS_HDMITX (power) "-", U18 AVSS_PLL (power) "-", U30 AVSS_HDMITX (power) "-", U33 AVSS_AC (power) "-", U35 AVSS_HDMITX (power) "-", V34 AVSS_AC (power) "-", V35 AVSS_HDMITX (power) "-", W31 AVSS_HDMITX (power) "-", W33 AVSS_AC (power) "-", W35 AVSS_HDMITX (power) "-", W36 AVSS_HDMITX (power) "-", W37 AVSS_HDMITX (power) "-", Y33 AVSS_AC (power) "-", Y35 AVSS_AC (power) "-"
part A text: CPU; DDR0
part B text: CPU; DDR1
part C text: CPU; VIO
part D text: ANALOG; CPU; STARTUP; SYSTEM; SENS.HUB; HS SERIAL; LS SERIAL
part E text: CPU; GPIO
part F text: CPU; GPIO
part G text: CPU; POWER
part H text: CPU; POWER
part I text: CPU; POWER
part J text: CPU; POWER

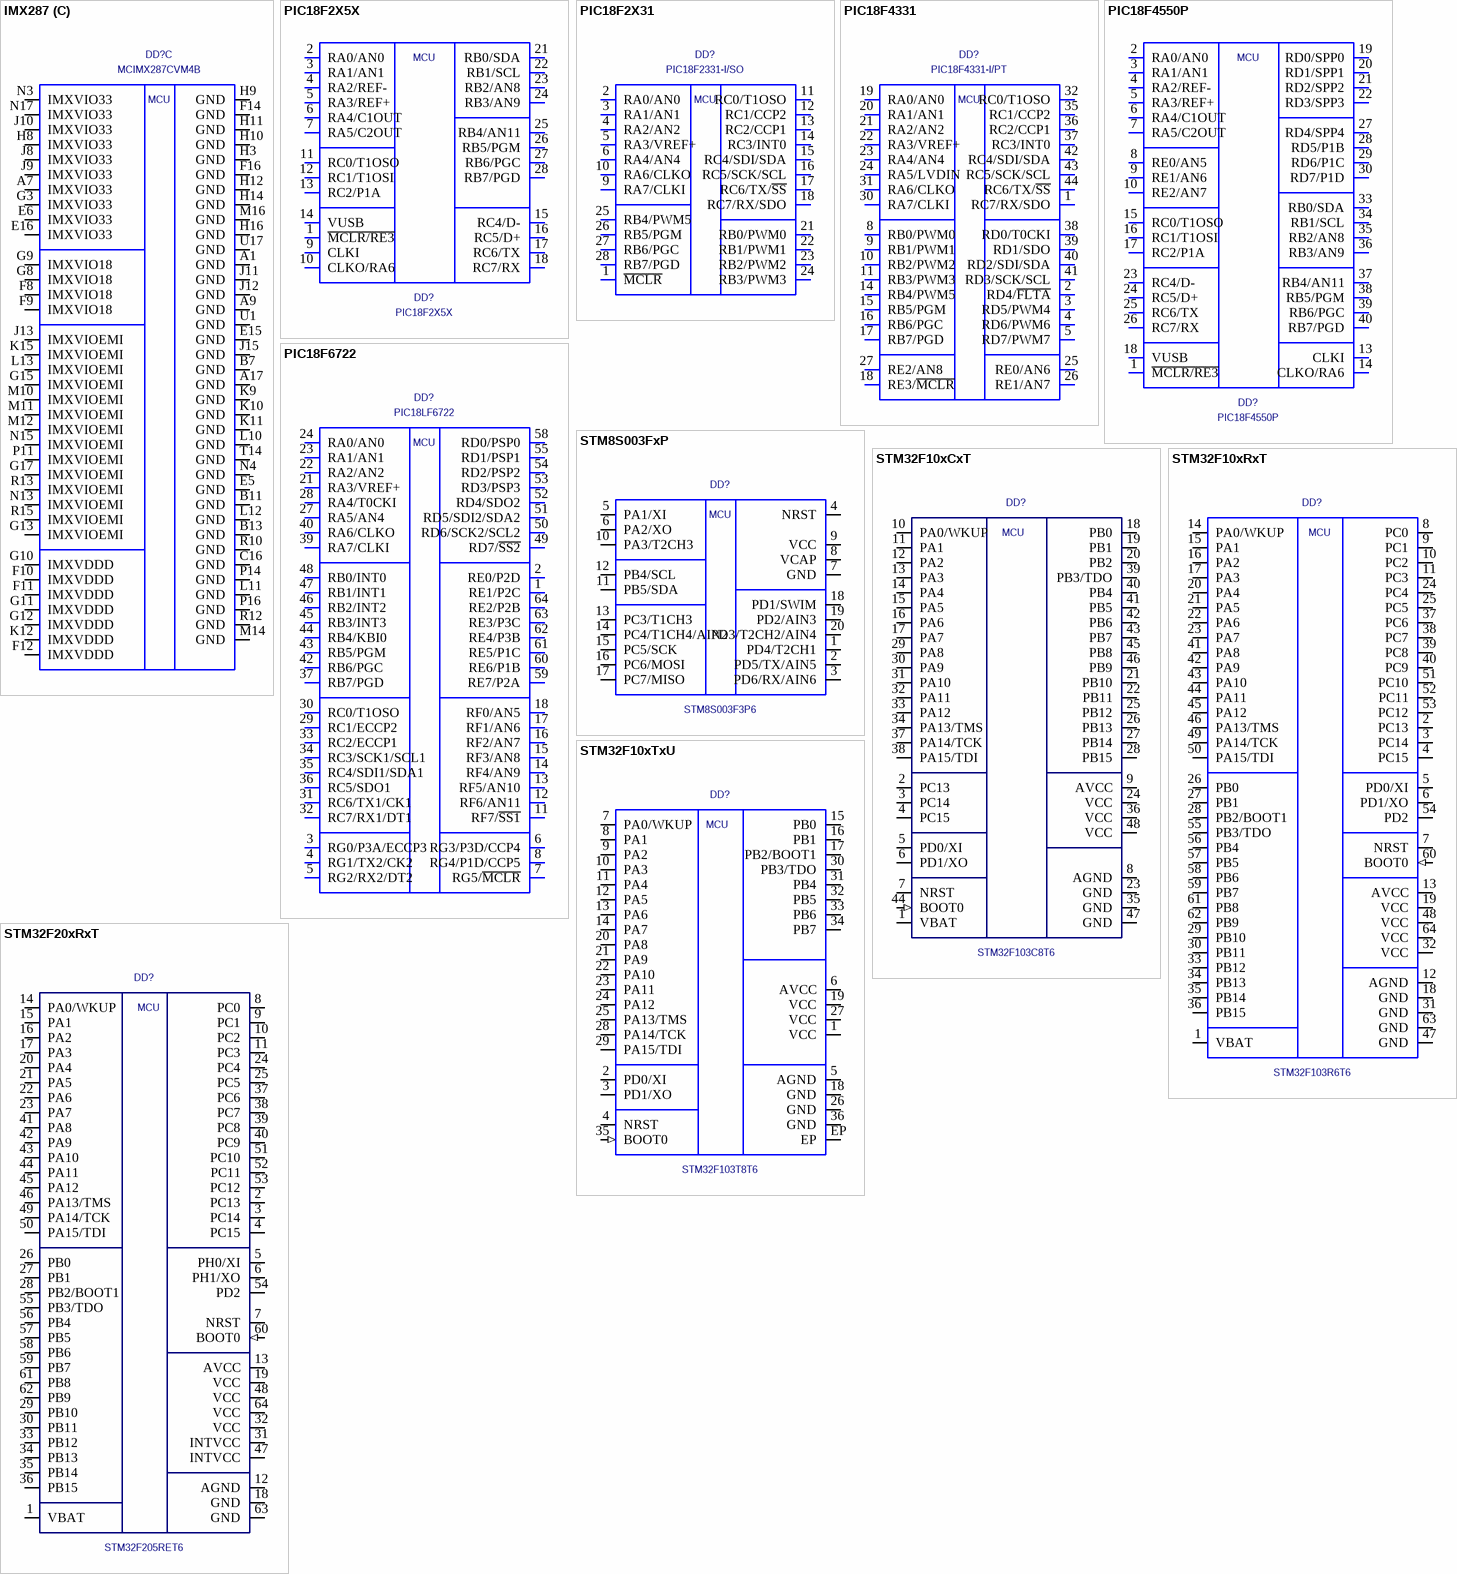
[diagram p5: symbols IMX287 to STM32F20xRxT]

## IMX287
designator DD?, comment MCIMX287CVM4B
IMX287; Value: MCIMX287CVM4B
footprint UBGA-289
part A pins: A2 P2:24/SP3SCK/E1EV0o (io), A3 P2:16/SP2SCK/U2RX (io), A4 P2:8/SP0CMD (io), A5 P2:3/SP0D3 (io), A6 P2:10/SP0SCK (io), B1 P2:12/SP1SCK/E0EV2o (io), B2 P2:26/SP3D0/E1EV1o (io), B3 P2:18/SP2D0/U3RX (io), B4 P2:7/SP0D7/SP2SCK (io), B5 P2:4/SP0D4/SP2D0 (io), B6 P2:0/SP0D0 (io), C1 P2:13/SP1CMD/E0EV2i (io), C2 P2:25/SP3CMD/E1EV0i (io), C3 P2:17/SP2CMD/U2TX (io), C4 P2:19/SP2D3/U3TX (io), C5 P2:5/SP0D5/SP2D3 (io), C6 P2:1/SP0D1 (io), C7 P3:24/I2C0SCL/ROTA (io), D1 P2:14/SP1D0/E0EV3o (io), D2 P2:27/SP3D3/E1EV1i (io), D3 P2:20/SP2D4/USB1OVC (io), D4 P2:21/SP2D5/USB0OVC (io), D5 P2:6/SP0D6/SP2CMD (io), D6 P2:2/SP0D2 (io), D7 P3:27/SPDIFTX/E1RXER (io), D8 P3:25/I2C0SDA/ROTB (io), D10 P2:9/SP0CDET (io), E1 P2:15/SP1D3/E0EV3i (io), E7 P3:23/I2S0SD0/PWM6 (io), E8 P3:26/I2S1SD0/PWM7 (io), E9 P3:28/PWM3 (io), E10 P3:29/PWM4 (io), F5 P3:9/U2TX/SP3D2 (io), F6 P3:8/U2RX/SP3D1 (io), F7 P3:22/I2S0BCLK/PWM5 (io), G5 P3:0/U0RX/I2C0SCL (io), G6 P3:21/I2S0LRCLK/PWM4 (io), G7 P3:20/I2S0MCLK/PWM3 (io), H5 P3:1/U0TX/I2C0SDA (io), H6 P3:10/U2CTS/I2C1SCL (io), H7 P3:11/U2RTS/I2C1SDA (io), J5 P3:7/U1RTS/ROTB (io), J6 P3:2/U0CTS/U4RX (io), J7 P3:3/U0RTS/U4TX (io), K1 P1:25/LCDWR/HSYNC (io), K2 P1:0/LCD0/BM0 (io), K3 P1:1/LCD1/BM1 (io), K4 P3:5/U1TX/PWM1 (io), K5 P3:6/U1CTS/ROTA (io), K6 P3:15/CAN1RX/E0EV1i (io), K7 P3:16/PWM0/I2C1SCL (io), K8 P3:18/PWM2 (io), L1 P1:28/LCDVSYNC (io), L2 P1:2/LCD2/BM2 (io), L3 P1:3/LCD3/BM3 (io), L4 P3:4/U1RX/PWM0 (io), L5 P3:13/CAN0RX/E0EV0i (io), L6 P3:14/CAN1TX/E0EV1o (io), L7 P3:17/PWM1/I2C1SDA (io), L8 P0:23/FRDY3/CAN0RX (io), L9 P0:28/~{FRST} (io), M1 P1:29/LCDHSYNC (io), M2 P1:4/LCD4/BVS (io), M3 P1:5/LCD5 (io), M4 P1:26/LCDRS/DCLK (io), M5 P3:12/CAN0TX/E0EV0o (io), M6 P3:30/LCD~{RST}/VSYNC (io), M7 P0:18/~{FCE2}/CAN1TX (io), M8 P0:22/FRDY2/CAN0TX (io), M9 P0:19/~{FCE3}/CAN1RX (io), N1 P1:30/LCDDCLK (io), N2 P1:6/LCD6 (io), N5 P1:31/LCDEN (io), N6 P0:20/FRDY0 (io), N7 P0:16/~{FCE0} (io), N8 P0:21/FRDY1 (io), N9 P0:17/~{FCE1} (io), P1 P1:7/LCD7 (io), P2 P1:8/LCD8 (io), P3 P1:9/LCD9 (io), P4 P1:24/LCDRD/VSYNC (io), P5 P1:27/LCDCS/EN (io), P6 P0:26/FALE (io), P7 P0:27/FCLE (io), P8 P0:25/~{FWR} (io), R1 P1:10/LCD10 (io), R2 P1:11/LCD11 (io), R3 P1:17/LCD17 (io), R4 P1:20/LCD20/E1EV2o (io), R5 P1:23/LCD23/E1EV3i (io), R6 P0:24/~{FRD} (io), R7 P0:5/FD5 (io), R8 P0:2/FD2 (io), T1 P1:12/LCD12 (io), T2 P1:13/LCD13 (io), T3 P1:16/LCD16 (io), T4 P1:19/LCD19 (io), T5 P1:22/LCD22/E1EV3o (io), T6 P0:7/FD7 (io), T7 P0:4/FD4 (io), T8 P0:1/FD1 (io), U2 P1:14/LCD14 (io), U3 P1:15/LCD15 (io), U4 P1:18/LCD18 (io), U5 P1:21/LCD21/E1EV2i (io), U6 P0:6/FD6 (io), U7 P0:3/FD3 (io), U8 P0:0/FD0 (io)
part B pins: A8 USB1DP, A10 USB0DM, A11 PSWITCH (in), A12 XTALI (in), A13 VDD4P2 (out), A14 ~{RESET} (in), A15 BATTERY (out), A16 DCDC:LP, B8 USB1DM, B9 DEBUG (in), B10 USB0DP, B12 XTALO (out), B14 HSADC0, B15 DCDC:BATT (power), B16 DCDC:VDDA (out), B17 DCDC:LN, C8 LRADC2, C9 LRADC1, C10 TESTMODE (in), C11 RTC:XTALO (out), C12 VDDXTAL, C13 VDDA1 (power), C14 LRADC6, C15 LRADC0, C17 DCDC:VDDIO (out), D9 LRADC3, D11 RTC:XTALI (in), D12 JTAG:TMS (in), D13 LRADC4, D14 JTAG:TRST (in), D15 LRADC5, D16 VDD1P5 (out), D17 DCDC:VDDD (out), E2 P4:16/ECLK (io), E3 P4:5/E0TCLK/E0EV2o (io), E4 P4:2/E0RXEN/~{FCE6} (io), E11 JTAG:TCK (in), E12 JTAG:TDI (in), E13 JTAG:TDO (out), E14 P4:20/JTAG:RTCK (out), E17 VDD5V (power), F1 P4:7/E0TXD0/FRDY6 (io), F2 P4:8/E0TXD1/FRDY7 (io), F3 P4:13/E0RCLK/E0RXER (io), F4 P4:6/E0TXEN/FRDY5 (io), F13 EMI:D14 (io), F15 EMI:DQM1 (io), F17 EMI:D15 (io), G1 P4:11/E0TXD2/E1TXD0 (io), G2 P4:12/E0TXD3/E1TXD1 (io), G4 P4:0/E0MDC/I2S0SD1 (io), G14 EMI:D10 (io), G16 EMI:D08 (io), H1 P4:3/E0RXD0/~{FCE7} (io), H2 P4:4/E0RXD1/FRDY4 (io), H4 P4:1/E0MDIO/I2S0SD2 (io), H13 EMI:D12 (io), H15 EMI:D09 (io), H17 EMI:D13 (io), J1 P4:9/E0RXD2/E1RXD0 (io), J2 P4:10/E0RXD3/E1RXD1 (io), J3 P4:15/E0CRS/E1RXEN (io), J4 P4:14/E0COL/E1TXEN (io), J14 EMI:D11 (io), J16 EMI:~{DQS1} (io), J17 EMI:DQS1 (io), K13 EMI:VREF1, K14 EMI:OP (io), K16 EMI:~{DQS0} (io), K17 EMI:DQS0 (io), L14 EMI:D06 (io), L15 EMI:OPFB (io), L16 EMI:~{CLK} (io), L17 EMI:CLK (io), M13 EMI:D01 (io), M15 EMI:DQM0 (io), M17 EMI:D07 (io), N10 EMI:A14 (io), N11 EMI:A07 (io), N12 EMI:BA2 (io), N14 EMI:D03 (io), N16 EMI:D00 (io), P9 EMI:~{CE1} (io), P10 EMI:A09 (io), P12 EMI:~{CE0} (io), P13 EMI:D04 (io), P15 EMI:D02 (io), P17 EMI:D05 (io), R9 EMI:A06 (io), R11 EMI:A05 (io), R14 EMI:VREF0, R16 EMI:~{RAS} (io), R17 EMI:ODT0 (io), T9 EMI:A13 (io), T10 EMI:A11 (io), T11 EMI:A03 (io), T12 EMI:BA1 (io), T13 EMI:CKE (io), T15 EMI:~{WE} (io), T16 EMI:BA0 (io), T17 EMI:ODT1 (io), U9 EMI:A08 (io), U10 EMI:A04 (io), U11 EMI:A12 (io), U12 EMI:A01 (io), U13 EMI:A10 (io), U14 EMI:A02 (io), U15 EMI:A00 (io), U16 EMI:~{CAS} (io)
part C pins: A1 GND (power), A7 IMXVIO33 (power), A9 GND (power), A17 GND (power), B7 GND (power), B11 GND (power), B13 GND (power), C16 GND (power), E5 GND (power), E6 IMXVIO33 (power), E15 GND (power), E16 IMXVIO33 (power), F8 IMXVIO18 (power), F9 IMXVIO18 (power), F10 IMXVDDD (power), F11 IMXVDDD (power), F12 IMXVDDD (power), F14 GND (power), F16 GND (power), G3 IMXVIO33 (power), G8 IMXVIO18 (power), G9 IMXVIO18 (power), G10 IMXVDDD (power), G11 IMXVDDD (power), G12 IMXVDDD (power), G13 IMXVIOEMI (power), G15 IMXVIOEMI (power), G17 IMXVIOEMI (power), H3 GND (power), H8 IMXVIO33 (power), H9 GND (power), H10 GND (power), H11 GND (power), H12 GND (power), H14 GND (power), H16 GND (power), J8 IMXVIO33 (power), J9 IMXVIO33 (power), J10 IMXVIO33 (power), J11 GND (power), J12 GND (power), J13 IMXVIOEMI (power), J15 GND (power), K9 GND (power), K10 GND (power), K11 GND (power), K12 IMXVDDD (power), K15 IMXVIOEMI (power), L10 GND (power), L11 GND (power), L12 GND (power), L13 IMXVIOEMI (power), M10 IMXVIOEMI (power), M11 IMXVIOEMI (power), M12 IMXVIOEMI (power), M14 GND (power), M16 GND (power), N3 IMXVIO33 (power), N4 GND (power), N13 IMXVIOEMI (power), N15 IMXVIOEMI (power), N17 IMXVIO33 (power), P11 IMXVIOEMI (power), P14 GND (power), P16 GND (power), R10 GND (power), R12 GND (power), R13 IMXVIOEMI (power), R15 IMXVIOEMI (power), T14 GND (power), U1 GND (power), U17 GND (power)
part A text: MCU
part B text: MCU
part C text: MCU

## PIC18F2X5X
designator DD?
Value: PIC18F2550-I/SO
footprint SO28
pins: 1 ~{MCLR/RE3}, 2 RA0/AN0, 3 RA1/AN1, 4 RA2/REF-, 5 RA3/REF+, 6 RA4/C1OUT, 7 RA5/C2OUT, 8 GND (power) hidden, 9 CLKI, 10 CLKO/RA6, 11 RC0/T1OSO, 12 RC1/T1OSI, 13 RC2/P1A, 14 VUSB, 15 RC4/D-, 16 RC5/D+, 17 RC6/TX, 18 RC7/RX, 19 GND (power) hidden, 20 VCC (power) hidden, 21 RB0/SDA, 22 RB1/SCL, 23 RB2/AN8, 24 RB3/AN9, 25 RB4/AN11, 26 RB5/PGM, 27 RB6/PGC, 28 RB7/PGD
text: MCU

## PIC18F2X31
designator DD?  value PIC18F2331-I/SO  (hidden comment: PIC18F2X31)
footprint SO28
pins: 1 ~{MCLR}, 2 RA0/AN0, 3 RA1/AN1, 4 RA2/AN2, 5 RA3/VREF+, 6 RA4/AN4, 7 VCC (power) hidden, 8 GND (power) hidden, 9 RA7/CLKI, 10 RA6/CLKO, 11 RC0/T1OSO, 12 RC1/CCP2, 13 RC2/CCP1, 14 RC3/INT0, 15 RC4/SDI/SDA, 16 RC5/SCK/SCL, 17 RC6/TX/~{SS}, 18 RC7/RX/SDO, 19 VCC (power) hidden, 20 GND (power) hidden, 21 RB0/PWM0, 22 RB1/PWM1, 23 RB2/PWM2, 24 RB3/PWM3, 25 RB4/PWM5, 26 RB5/PGM, 27 RB6/PGC, 28 RB7/PGD
text: MCU

## PIC18F4331
designator DD?  value PIC18F4331-I/PT  (hidden comment: PIC18F4331)
footprint TQFP44
pins: 1 RC7/RX/SDO, 2 RD4/~{FLTA}, 3 RD5/PWM4, 4 RD6/PWM6, 5 RD7/PWM7, 6 GND (power) hidden, 7 VCC (power) hidden, 8 RB0/PWM0, 9 RB1/PWM1, 10 RB2/PWM2, 11 RB3/PWM3, 12 hidden, 13 hidden, 14 RB4/PWM5, 15 RB5/PGM, 16 RB6/PGC, 17 RB7/PGD, 18 RE3/~{MCLR}, 19 RA0/AN0, 20 RA1/AN1, 21 RA2/AN2, 22 RA3/VREF+, 23 RA4/AN4, 24 RA5/LVDIN, 25 RE0/AN6, 26 RE1/AN7, 27 RE2/AN8, 28 VCC (power) hidden, 29 GND (power) hidden, 30 RA7/CLKI, 31 RA6/CLKO, 32 RC0/T1OSO, 33 hidden, 34 hidden, 35 RC1/CCP2, 36 RC2/CCP1, 37 RC3/INT0, 38 RD0/T0CKI, 39 RD1/SDO, 40 RD2/SDI/SDA, 41 RD3/SCK/SCL, 42 RC4/SDI/SDA, 43 RC5/SCK/SCL, 44 RC6/TX/~{SS}
text: MCU

## PIC18F4550P
designator DD?
Value: PIC18F4550-I/P
footprint DIP40
pins: 1 ~{MCLR/RE3}, 2 RA0/AN0, 3 RA1/AN1, 4 RA2/REF-, 5 RA3/REF+, 6 RA4/C1OUT, 7 RA5/C2OUT, 8 RE0/AN5, 9 RE1/AN6, 10 RE2/AN7, 11 VCC (power) hidden, 12 GND (power) hidden, 13 CLKI, 14 CLKO/RA6, 15 RC0/T1OSO, 16 RC1/T1OSI, 17 RC2/P1A, 18 VUSB, 19 RD0/SPP0, 20 RD1/SPP1, 21 RD2/SPP2, 22 RD3/SPP3, 23 RC4/D-, 24 RC5/D+, 25 RC6/TX, 26 RC7/RX, 27 RD4/SPP4, 28 RD5/P1B, 29 RD6/P1C, 30 RD7/P1D, 31 GND (power) hidden, 32 VCC (power) hidden, 33 RB0/SDA, 34 RB1/SCL, 35 RB2/AN8, 36 RB3/AN9, 37 RB4/AN11, 38 RB5/PGM, 39 RB6/PGC, 40 RB7/PGD
text: MCU

## PIC18F6722
designator DD?  value PIC18LF6722  (hidden comment: PIC18F6722)
footprint LQFP64
pins: 1 RE1/P2C, 2 RE0/P2D, 3 RG0/P3A/ECCP3, 4 RG1/TX2/CK2, 5 RG2/RX2/DT2, 6 RG3/P3D/CCP4, 7 RG5/~{MCLR}, 8 RG4/P1D/CCP5, 9 GND (power) hidden, 10 VCC (power) hidden, 11 RF7/~{SS1}, 12 RF6/AN11, 13 RF5/AN10, 14 RF4/AN9, 15 RF3/AN8, 16 RF2/AN7, 17 RF1/AN6, 18 RF0/AN5, 19 VCC (power) hidden, 20 GND (power) hidden, 21 RA3/VREF+, 22 RA2/AN2, 23 RA1/AN1, 24 RA0/AN0, 25 GND (power) hidden, 26 VCC (power) hidden, 27 RA5/AN4, 28 RA4/T0CKI, 29 RC1/ECCP2, 30 RC0/T1OSO, 31 RC6/TX1/CK1, 32 RC7/RX1/DT1, 33 RC2/ECCP1, 34 RC3/SCK1/SCL1, 35 RC4/SDI1/SDA1, 36 RC5/SDO1, 37 RB7/PGD, 38 VCC (power) hidden, 39 RA7/CLKI, 40 RA6/CLKO, 41 GND (power) hidden, 42 RB6/PGC, 43 RB5/PGM, 44 RB4/KBI0, 45 RB3/INT3, 46 RB2/INT2, 47 RB1/INT1, 48 RB0/INT0, 49 RD7/~{SS2}, 50 RD6/SCK2/SCL2, 51 RD5/SDI2/SDA2, 52 RD4/SDO2, 53 RD3/PSP3, 54 RD2/PSP2, 55 RD1/PSP1, 56 GND (power) hidden, 57 VCC (power) hidden, 58 RD0/PSP0, 59 RE7/P2A, 60 RE6/P1B, 61 RE5/P1C, 62 RE4/P3B, 63 RE3/P3C, 64 RE2/P2B
text: MCU

## STM8S003FxP
designator DD?, comment STM8S003F3P6
8-bit 16 MHz MCU; Value: STM8S003F3P6
footprint TSSOP20
pins: 1 PD4/T2CH1 (io), 2 PD5/TX/AIN5 (io), 3 PD6/RX/AIN6 (io), 4 NRST (io), 5 PA1/XI (io), 6 PA2/XO (io), 7 GND (power), 8 VCAP (power), 9 VCC (power), 10 PA3/T2CH3 (io), 11 PB5/SDA (io), 12 PB4/SCL (io), 13 PC3/T1CH3 (io), 14 PC4/T1CH4/AIN2 (io), 15 PC5/SCK (io), 16 PC6/MOSI (io), 17 PC7/MISO (io), 18 PD1/SWIM (io), 19 PD2/AIN3 (io), 20 PD3/T2CH2/AIN4 (io)
text: MCU

## STM32F10xCxT
designator DD?, comment STM32F103C8T6
32-bit 24-72 MHz MCU; Value: STM32F103C8T6
footprint LQFP48
pins: 1 VBAT (power), 2 PC13 (io), 3 PC14 (io), 4 PC15 (io), 5 PD0/XI (io), 6 PD1/XO (io), 7 NRST (io), 8 AGND (power), 9 AVCC (power), 10 PA0/WKUP (io), 11 PA1 (io), 12 PA2 (io), 13 PA3 (io), 14 PA4 (io), 15 PA5 (io), 16 PA6 (io), 17 PA7 (io), 18 PB0 (io), 19 PB1 (io), 20 PB2 (io), 21 PB10 (io), 22 PB11 (io), 23 GND (power), 24 VCC (power), 25 PB12 (io), 26 PB13 (io), 27 PB14 (io), 28 PB15 (io), 29 PA8 (io), 30 PA9 (io), 31 PA10 (io), 32 PA11 (io), 33 PA12 (io), 34 PA13/TMS (io), 35 GND (power), 36 VCC (power), 37 PA14/TCK (io), 38 PA15/TDI (io), 39 PB3/TDO (io), 40 PB4 (io), 41 PB5 (io), 42 PB6 (io), 43 PB7 (io), 44 BOOT0 (in), 45 PB8 (io), 46 PB9 (io), 47 GND (power), 48 VCC (power)
text: MCU

## STM32F10xRxT
designator DD?, comment STM32F103R6T6
32-bit 24-72 MHz MCU; Value: STM32F103R6T6
footprint LQFP64
pins: 1 VBAT (power), 2 PC13 (io), 3 PC14 (io), 4 PC15 (io), 5 PD0/XI (io), 6 PD1/XO (io), 7 NRST (io), 8 PC0 (io), 9 PC1 (io), 10 PC2 (io), 11 PC3 (io), 12 AGND (power), 13 AVCC (power), 14 PA0/WKUP (io), 15 PA1 (io), 16 PA2 (io), 17 PA3 (io), 18 GND (power), 19 VCC (power), 20 PA4 (io), 21 PA5 (io), 22 PA6 (io), 23 PA7 (io), 24 PC4 (io), 25 PC5 (io), 26 PB0 (io), 27 PB1 (io), 28 PB2/BOOT1 (io), 29 PB10 (io), 30 PB11 (io), 31 GND (power), 32 VCC (power), 33 PB12 (io), 34 PB13 (io), 35 PB14 (io), 36 PB15 (io), 37 PC6 (io), 38 PC7 (io), 39 PC8 (io), 40 PC9 (io), 41 PA8 (io), 42 PA9 (io), 43 PA10 (io), 44 PA11 (io), 45 PA12 (io), 46 PA13/TMS (io), 47 GND (power), 48 VCC (power), 49 PA14/TCK (io), 50 PA15/TDI (io), 51 PC10 (io), 52 PC11 (io), 53 PC12 (io), 54 PD2 (io), 55 PB3/TDO (io), 56 PB4 (io), 57 PB5 (io), 58 PB6 (io), 59 PB7 (io), 60 BOOT0 (in), 61 PB8 (io), 62 PB9 (io), 63 GND (power), 64 VCC (power)
text: MCU

## STM32F10xTxU
designator DD?, comment STM32F103T8T6
32-bit 24-72 MHz MCU; Value: STM32F103T8T6
footprint MLF36
pins: 1 VCC (power), 2 PD0/XI (io), 3 PD1/XO (io), 4 NRST (io), 5 AGND (power), 6 AVCC (power), 7 PA0/WKUP (io), 8 PA1 (io), 9 PA2 (io), 10 PA3 (io), 11 PA4 (io), 12 PA5 (io), 13 PA6 (io), 14 PA7 (io), 15 PB0 (io), 16 PB1 (io), 17 PB2/BOOT1 (io), 18 GND (power), 19 VCC (power), 20 PA8 (io), 21 PA9 (io), 22 PA10 (io), 23 PA11 (io), 24 PA12 (io), 25 PA13/TMS (io), 26 GND (power), 27 VCC (power), 28 PA14/TCK (io), 29 PA15/TDI (io), 30 PB3/TDO (io), 31 PB4 (io), 32 PB5 (io), 33 PB6 (io), 34 PB7 (io), 35 BOOT0 (in), 36 GND (power), EP (power)
text: MCU

## STM32F20xRxT
designator DD?, comment STM32F205RET6
32-bit 120 MHz MCU; Value: STM32F205RET6
footprint LQFP64
pins: 1 VBAT (power), 2 PC13 (io), 3 PC14 (io), 4 PC15 (io), 5 PH0/XI (io), 6 PH1/XO (io), 7 NRST (io), 8 PC0 (io), 9 PC1 (io), 10 PC2 (io), 11 PC3 (io), 12 AGND (power), 13 AVCC (power), 14 PA0/WKUP (io), 15 PA1 (io), 16 PA2 (io), 17 PA3 (io), 18 GND (power), 19 VCC (power), 20 PA4 (io), 21 PA5 (io), 22 PA6 (io), 23 PA7 (io), 24 PC4 (io), 25 PC5 (io), 26 PB0 (io), 27 PB1 (io), 28 PB2/BOOT1 (io), 29 PB10 (io), 30 PB11 (io), 31 INTVCC, 32 VCC (power), 33 PB12 (io), 34 PB13 (io), 35 PB14 (io), 36 PB15 (io), 37 PC6 (io), 38 PC7 (io), 39 PC8 (io), 40 PC9 (io), 41 PA8 (io), 42 PA9 (io), 43 PA10 (io), 44 PA11 (io), 45 PA12 (io), 46 PA13/TMS (io), 47 INTVCC, 48 VCC (power), 49 PA14/TCK (io), 50 PA15/TDI (io), 51 PC10 (io), 52 PC11 (io), 53 PC12 (io), 54 PD2 (io), 55 PB3/TDO (io), 56 PB4 (io), 57 PB5 (io), 58 PB6 (io), 59 PB7 (io), 60 BOOT0 (in), 61 PB8 (io), 62 PB9 (io), 63 GND (power), 64 VCC (power)
text: MCU

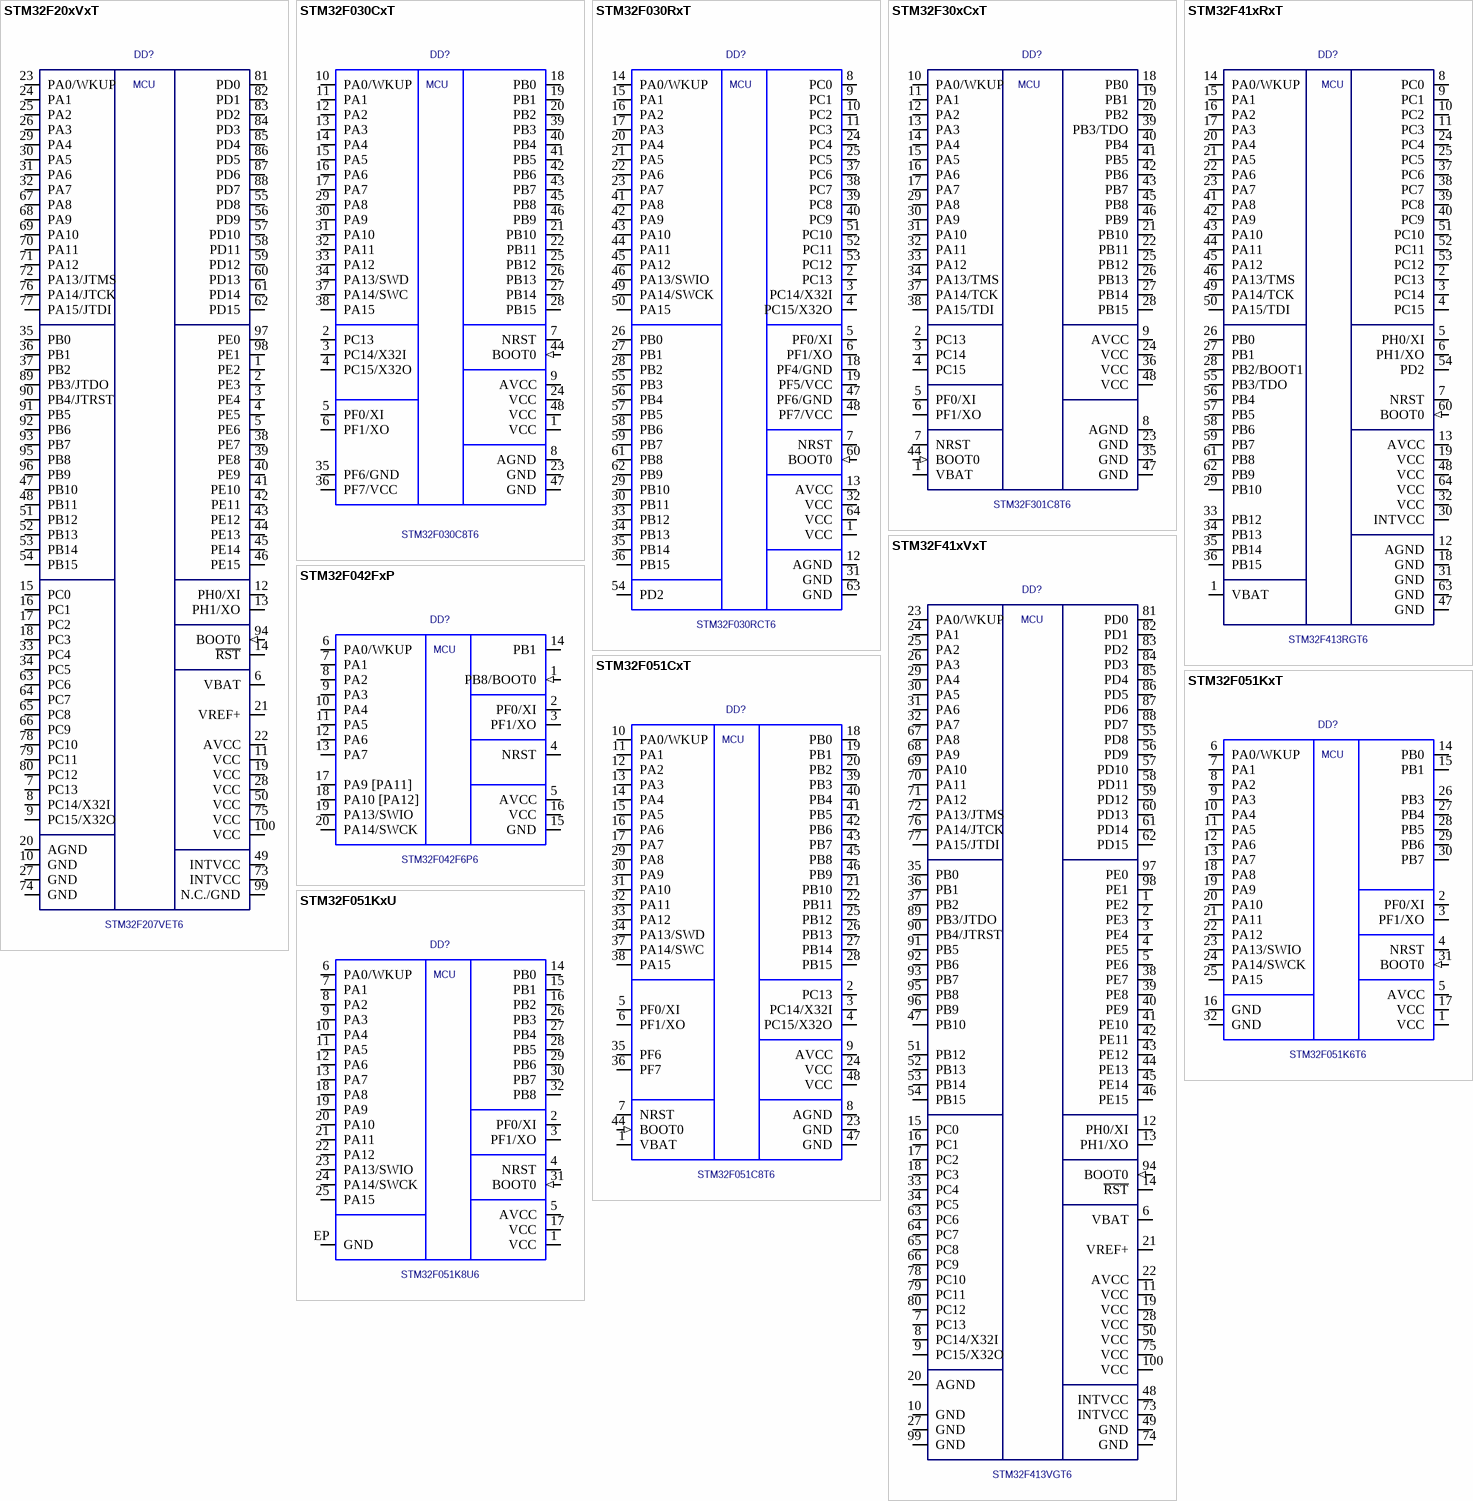
[diagram p6: symbols STM32F20xVxT to STM32F051KxU]

## STM32F20xVxT
designator DD?, comment STM32F207VET6
32-bit 120 MHz MCU; Value: STM32F207VET6
footprint TQFP100
pins: 1 PE2 (io), 2 PE3 (io), 3 PE4 (io), 4 PE5 (io), 5 PE6 (io), 6 VBAT (power), 7 PC13 (io), 8 PC14/X32I (io), 9 PC15/X32O (io), 10 GND (power), 11 VCC (power), 12 PH0/XI (io), 13 PH1/XO (io), 14 ~{RST} (io), 15 PC0 (io), 16 PC1 (io), 17 PC2 (io), 18 PC3 (io), 19 VCC (power), 20 AGND (power), 21 VREF+, 22 AVCC (power), 23 PA0/WKUP (io), 24 PA1 (io), 25 PA2 (io), 26 PA3 (io), 27 GND (power), 28 VCC (power), 29 PA4 (io), 30 PA5 (io), 31 PA6 (io), 32 PA7 (io), 33 PC4 (io), 34 PC5 (io), 35 PB0 (io), 36 PB1 (io), 37 PB2 (io), 38 PE7 (io), 39 PE8 (io), 40 PE9 (io), 41 PE10 (io), 42 PE11 (io), 43 PE12 (io), 44 PE13 (io), 45 PE14 (io), 46 PE15 (io), 47 PB10 (io), 48 PB11 (io), 49 INTVCC, 50 VCC (power), 51 PB12 (io), 52 PB13 (io), 53 PB14 (io), 54 PB15 (io), 55 PD8 (io), 56 PD9 (io), 57 PD10 (io), 58 PD11 (io), 59 PD12 (io), 60 PD13 (io), 61 PD14 (io), 62 PD15 (io), 63 PC6 (io), 64 PC7 (io), 65 PC8 (io), 66 PC9 (io), 67 PA8 (io), 68 PA9 (io), 69 PA10 (io), 70 PA11 (io), 71 PA12 (io), 72 PA13/JTMS (io), 73 INTVCC, 74 GND (power), 75 VCC (power), 76 PA14/JTCK (io), 77 PA15/JTDI (io), 78 PC10 (io), 79 PC11 (io), 80 PC12 (io), 81 PD0 (io), 82 PD1 (io), 83 PD2 (io), 84 PD3 (io), 85 PD4 (io), 86 PD5 (io), 87 PD6 (io), 88 PD7 (io), 89 PB3/JTDO (io), 90 PB4/JTRST (io), 91 PB5 (io), 92 PB6 (io), 93 PB7 (io), 94 BOOT0 (in), 95 PB8 (io), 96 PB9 (io), 97 PE0 (io), 98 PE1 (io), 99 N.C./GND, 100 VCC (power)
text: MCU

## STM32F030CxT
designator DD?, comment STM32F030C8T6
32-bit 48 MHz ARM; Value: STM32F030C8T6
footprint LQFP48
pins: 1 VCC (power), 2 PC13 (io), 3 PC14/X32I (io), 4 PC15/X32O (io), 5 PF0/XI (io), 6 PF1/XO (io), 7 NRST (io), 8 AGND (power), 9 AVCC (power), 10 PA0/WKUP (io), 11 PA1 (io), 12 PA2 (io), 13 PA3 (io), 14 PA4 (io), 15 PA5 (io), 16 PA6 (io), 17 PA7 (io), 18 PB0 (io), 19 PB1 (io), 20 PB2 (io), 21 PB10 (io), 22 PB11 (io), 23 GND (power), 24 VCC (power), 25 PB12 (io), 26 PB13 (io), 27 PB14 (io), 28 PB15 (io), 29 PA8 (io), 30 PA9 (io), 31 PA10 (io), 32 PA11 (io), 33 PA12 (io), 34 PA13/SWD (io), 35 PF6/GND (io), 36 PF7/VCC (io), 37 PA14/SWC (io), 38 PA15 (io), 39 PB3 (io), 40 PB4 (io), 41 PB5 (io), 42 PB6 (io), 43 PB7 (io), 44 BOOT0 (in), 45 PB8 (io), 46 PB9 (io), 47 GND (power), 48 VCC (power)
text: MCU